# Altium integrated library CommonElectronicsLibrary.IntLib: 214 symbols (part 3 of 4)
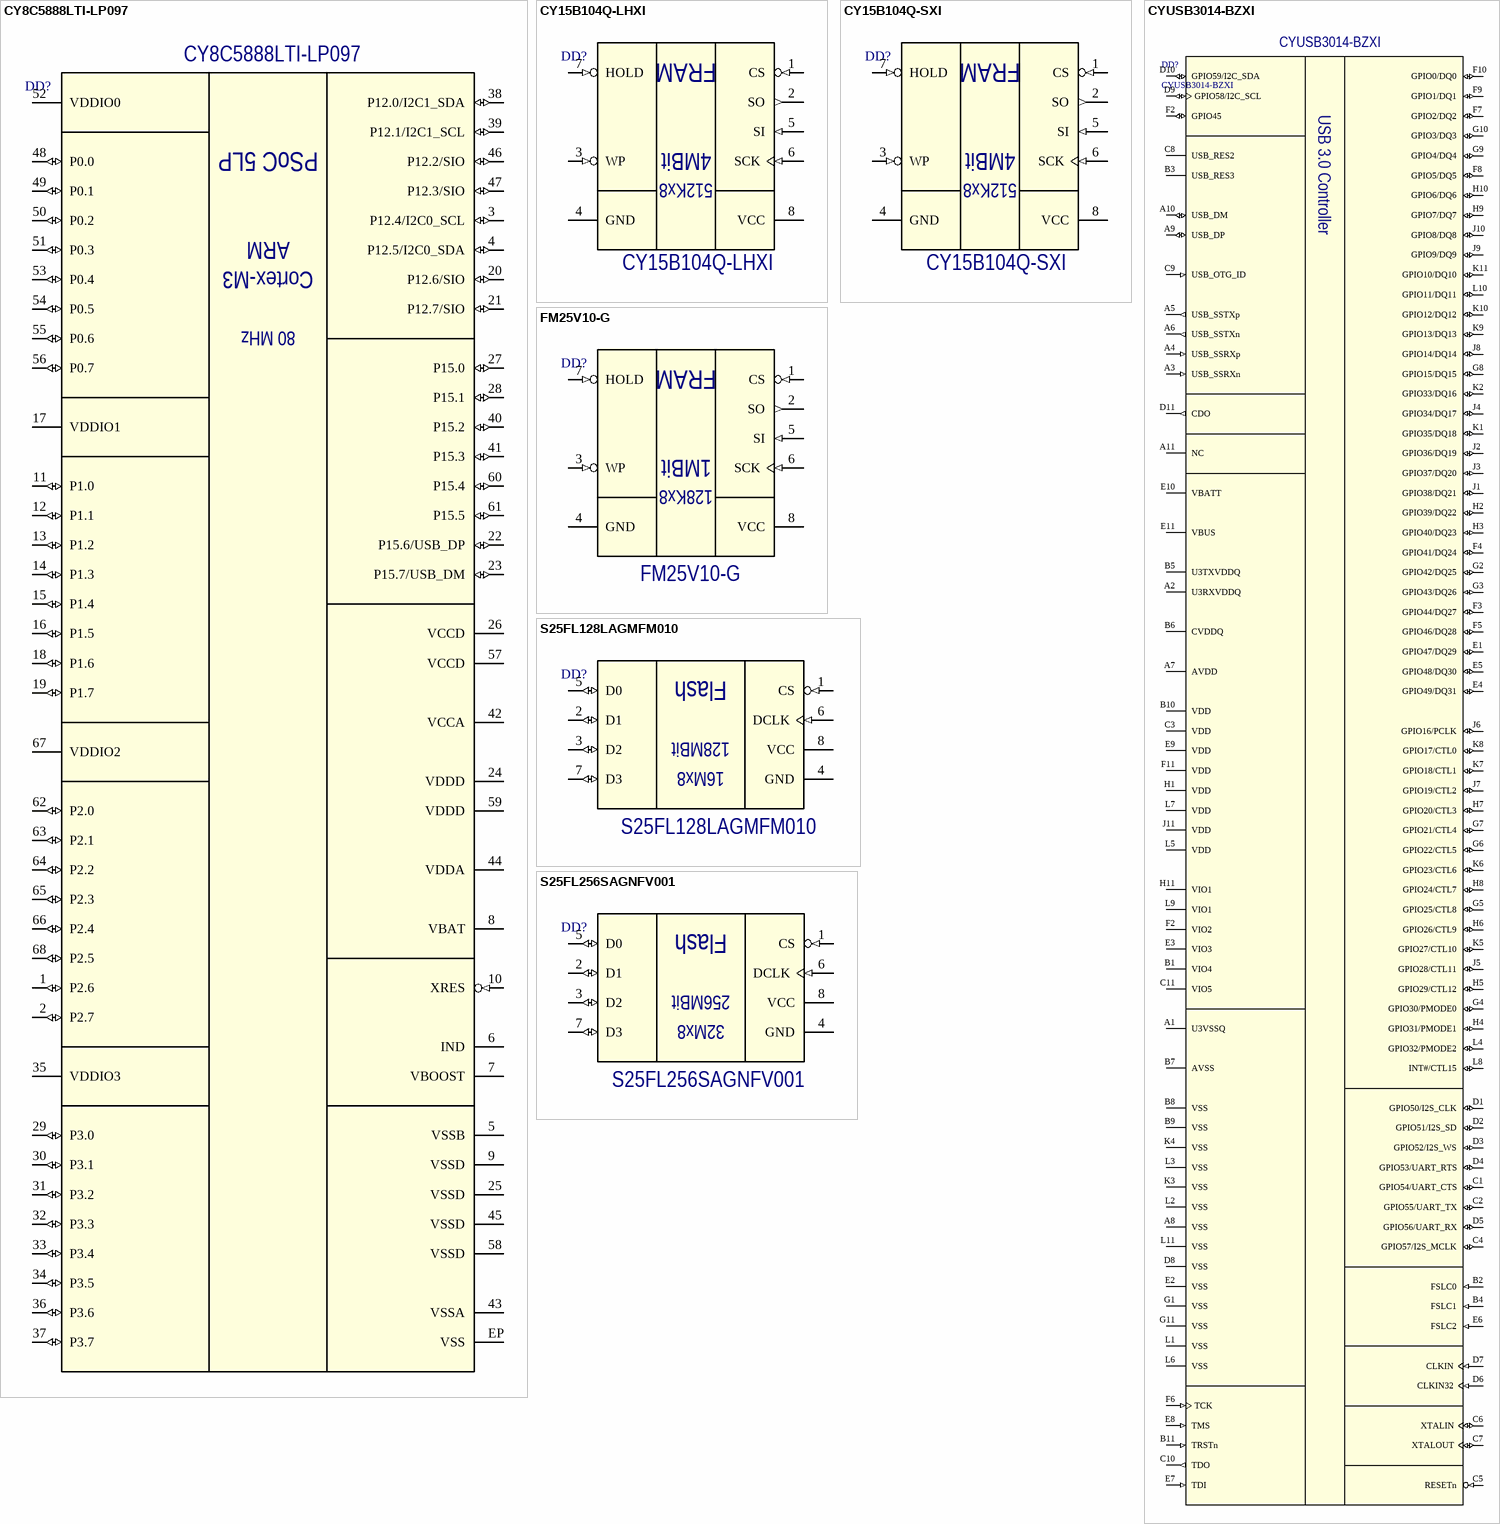
[diagram p62: symbols CY8C5888LTI-LP097 to S25FL256SAGNFV001]

## CYUSB3014-BZXI
designator DD?
EZ-USB® FX3: SuperSpeed USB Controller; Package: BGA-121; Part Nubmer: CYUSB3014-BZXI
pins: A1 U3VSSQ (power), A2 U3RXVDDQ (power), A3 USB_SSRXn (in), A4 USB_SSRXp (in), A5 USB_SSTXp (out), A6 USB_SSTXn (out), A7 AVDD (power), A8 VSS (power), A9 USB_DP (io), A10 USB_DM (io), A11 NC, B1 VIO4 (power), B2 FSLC0 (in), B3 USB_RES3, B4 FSLC1 (in), B5 U3TXVDDQ (power), B6 CVDDQ (power), B7 AVSS (power), B8 VSS (power), B9 VSS (power), B10 VDD (power), B11 TRSTn (in), C1 GPIO54/UART_CTS (io), C2 GPIO55/UART_TX (io), C3 VDD (power), C4 GPIO57/I2S_MCLK (io), C5 RESETn (in), C6 XTALIN (io), C7 XTALOUT (io), C8 USB_RES2, C9 USB_OTG_ID (in), C10 TDO (out), C11 VIO5 (power), D1 GPIO50/I2S_CLK (io), D2 GPIO51/I2S_SD (io), D3 GPIO52/I2S_WS (io), D4 GPIO53/UART_RTS (io), D5 GPIO56/UART_RX (io), D6 CLKIN32 (in), D7 CLKIN (in), D8 VSS (power), D9 GPIO58/I2C_SCL (io), D10 GPIO59/I2C_SDA (io), D11 CDO (out), E1 GPIO47/DQ29 (io), E2 VSS (power), E3 VIO3 (power), E4 GPIO49/DQ31 (io), E5 GPIO48/DQ30 (io), E6 FSLC2 (in), E7 TDI (in), E8 TMS (in), E9 VDD (power), E10 VBATT (power), E11 VBUS (power), F2 GPIO45 (io), F2 VIO2 (power), F3 GPIO44/DQ27 (io), F4 GPIO41/DQ24 (io), F5 GPIO46/DQ28 (io), F6 TCK (in), F7 GPIO2/DQ2 (io), F8 GPIO5/DQ5 (io), F9 GPIO1/DQ1 (io), F10 GPIO0/DQ0 (io), F11 VDD (power), G1 VSS (power), G2 GPIO42/DQ25 (io), G3 GPIO43/DQ26 (io), G4 GPIO30/PMODE0 (io), G5 GPIO25/CTL8 (io), G6 GPIO22/CTL5 (io), G7 GPIO21/CTL4 (io), G8 GPIO15/DQ15 (io), G9 GPIO4/DQ4 (io), G10 GPIO3/DQ3 (io), G11 VSS (power), H1 VDD (power), H2 GPIO39/DQ22 (io), H3 GPIO40/DQ23 (io), H4 GPIO31/PMODE1 (io), H5 GPIO29/CTL12 (io), H6 GPIO26/CTL9 (io), H7 GPIO20/CTL3 (io), H8 GPIO24/CTL7 (io), H9 GPIO7/DQ7 (io), H10 GPIO6/DQ6 (io), H11 VIO1 (power), J1 GPIO38/DQ21 (io), J2 GPIO36/DQ19 (io), J3 GPIO37/DQ20 (io), J4 GPIO34/DQ17 (io), J5 GPIO28/CTL11 (io), J6 GPIO16/PCLK (io), J7 GPIO19/CTL2 (io), J8 GPIO14/DQ14 (io), J9 GPIO9/DQ9 (io), J10 GPIO8/DQ8 (io), J11 VDD (power), K1 GPIO35/DQ18 (io), K2 GPIO33/DQ16 (io), K3 VSS (power), K4 VSS (power), K5 GPIO27/CTL10 (io), K6 GPIO23/CTL6 (io), K7 GPIO18/CTL1 (io), K8 GPIO17/CTL0 (io), K9 GPIO13/DQ13 (io), K10 GPIO12/DQ12 (io), K11 GPIO10/DQ10 (io), L1 VSS (power), L2 VSS (power), L3 VSS (power), L4 GPIO32/PMODE2 (io), L5 VDD (power), L6 VSS (power), L7 VDD (power), L8 INT#/CTL15 (io), L9 VIO1 (power), L10 GPIO11/DQ11 (io), L11 VSS (power)
text: USB 3.0 Controller

## FM25V10-G
designator DD?
FRAM Memory 1MBit (128K x 8); Package: SOIC8; Part Number: FM25V10-G
pins: 1 CS (in), 2 SO (out), 3 WP (in), 4 GND (power), 5 SI (in), 6 SCK (in), 7 HOLD (in), 8 VCC (power)
text: FRAM; 1MBit; 128Kx8

## S25FL128LAGMFM010
designator DD?
Flash Memory 128MBit (16M x 8); Package: SOIC8; Part Number: S25FL128LAGMFM010
pins: 1 CS (in), 2 D1 (io), 3 D2 (io), 4 GND (power), 5 D0 (io), 6 DCLK (in), 7 D3 (io), 8 VCC (power)
text: Flash; 128MBit; 16Mx8

## S25FL256SAGNFV001
designator DD?
Flash Memory 256MBit (32M x 8); Package: WSON-8; Dimension package: 6 x 8 x 0.75 mm; Part Number: S25FL256SAGNFV001
pins: 1 CS (in), 2 D1 (io), 3 D2 (io), 4 GND (power), 5 D0 (io), 6 DCLK (in), 7 D3 (io), 8 VCC (power)
text: Flash; 256MBit; 32Mx8


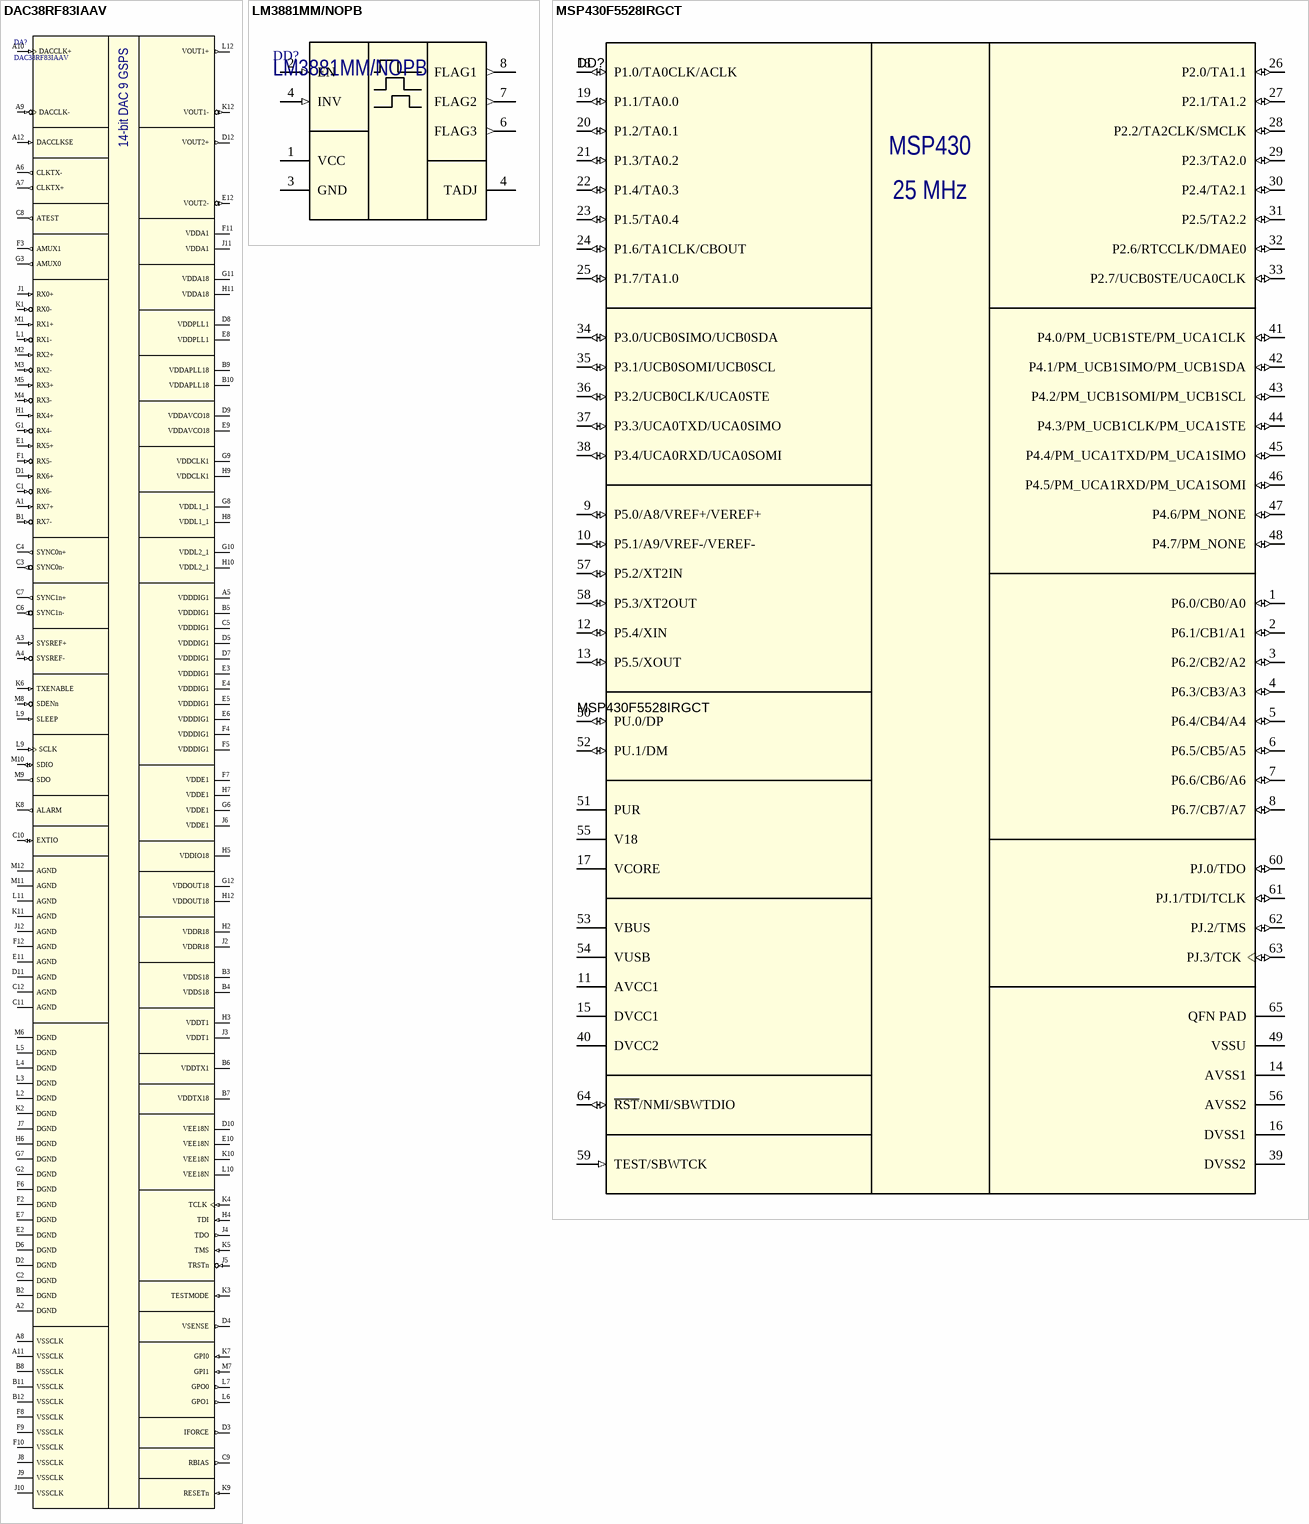
[diagram p30: symbols DAC38RF83IAAV to MSP430F5528IRGCT]

## DAC38RF83IAAV
designator DA?
Dual-Channel 9 GSPS 14-bit DAC; PartNumber: DAC38RF83IAAV; Package: BGA-144
pins: A1 RX7+ (in), A2 DGND (power), A3 SYSREF+ (in), A4 SYSREF- (in), A5 VDDDIG1 (power), A6 CLKTX- (out), A7 CLKTX+ (out), A8 VSSCLK (power), A9 DACCLK- (in), A10 DACCLK+ (in), A11 VSSCLK (power), A12 DACCLKSE (in), B1 RX7- (in), B2 DGND (power), B3 VDDS18 (power), B4 VDDS18 (power), B5 VDDDIG1 (power), B6 VDDTX1 (power), B7 VDDTX18 (power), B8 VSSCLK (power), B9 VDDAPLL18 (power), B10 VDDAPLL18 (power), B11 VSSCLK (power), B12 VSSCLK (power), C1 RX6- (in), C2 DGND (power), C3 SYNC0n- (out), C4 SYNC0n+ (out), C5 VDDDIG1 (power), C6 SYNC1n- (out), C7 SYNC1n+ (out), C8 ATEST (out), C9 RBIAS (out), C10 EXTIO (io), C11 AGND (power), C12 AGND (power), D1 RX6+ (in), D2 DGND (power), D3 IFORCE (out), D4 VSENSE (out), D5 VDDDIG1 (power), D6 DGND (power), D7 VDDDIG1 (power), D8 VDDPLL1 (power), D9 VDDAVCO18 (power), D10 VEE18N (power), D11 AGND (power), D12 VOUT2+ (out), E1 RX5+ (in), E2 DGND (power), E3 VDDDIG1 (power), E4 VDDDIG1 (power), E5 VDDDIG1 (power), E6 VDDDIG1 (power), E7 DGND (power), E8 VDDPLL1 (power), E9 VDDAVCO18 (power), E10 VEE18N (power), E11 AGND (power), E12 VOUT2- (out), F1 RX5- (in), F2 DGND (power), F3 AMUX1 (out), F4 VDDDIG1 (power), F5 VDDDIG1 (power), F6 DGND (power), F7 VDDE1 (power), F8 VSSCLK (power), F9 VSSCLK (power), F10 VSSCLK (power), F11 VDDA1 (power), F12 AGND (power), G1 RX4- (in), G2 DGND (power), G3 AMUX0 (out), G6 VDDE1 (power), G7 DGND (power), G8 VDDL1_1 (power), G9 VDDCLK1 (power), G10 VDDL2_1 (power), G11 VDDA18 (power), G12 VDDOUT18 (power), H1 RX4+ (in), H2 VDDR18 (power), H3 VDDT1 (power), H4 TDI (in), H5 VDDIO18 (power), H6 DGND (power), H7 VDDE1 (power), H8 VDDL1_1 (power), H9 VDDCLK1 (power), H10 VDDL2_1 (power), H11 VDDA18 (power), H12 VDDOUT18 (power), J1 RX0+ (in), J2 VDDR18 (power), J3 VDDT1 (power), J4 TDO (out), J5 TRSTn (in), J6 VDDE1 (power), J7 DGND (power), J8 VSSCLK (power), J9 VSSCLK (power), J10 VSSCLK (power), J11 VDDA1 (power), J12 AGND (power), K1 RX0- (in), K2 DGND (power), K3 TESTMODE (in), K4 TCLK (in), K5 TMS (in), K6 TXENABLE (in), K7 GPI0 (in), K8 ALARM (out), K9 RESETn (in), K10 VEE18N (power), K11 AGND (power), K12 VOUT1- (out), L1 RX1- (in), L2 DGND (power), L3 DGND (power), L4 DGND (power), L5 DGND (power), L6 GPO1 (out), L7 GPO0 (out), L9 SCLK (in), L9 SLEEP (in), L10 VEE18N (power), L11 AGND (power), L12 VOUT1+ (out), M1 RX1+ (in), M2 RX2+ (in), M3 RX2- (in), M4 RX3- (in), M5 RX3+ (in), M6 DGND (power), M7 GPI1 (in), M8 SDENn (in), M9 SDO (out), M10 SDIO (io), M11 AGND (power), M12 AGND (power)
text: 14-bit DAC 9 GSPS

## LM3881MM/NOPB
designator DD?
Power Sequencer With Adjustable Timing; Part Number: LM3881MM/NOPB; Package: MSOP-8
pins: 1 VCC (power), 2 EN (in), 3 GND (power), 4 INV (in), 4 TADJ, 6 FLAG3 (out), 7 FLAG2 (out), 8 FLAG1 (out)

## MSP430F5528IRGCT
designator DD?
25 MHz Mixed Signal Microcontroller with 128 KB Flash, 8192 B SRAM and 47 GPIOs, -40 to 85 degC, 64-pin QFN (RGC); Alternate Manufacturer: Texas Instruments; Alternate PartNumber: Equivalent; ADC: 12-bit SAR; ADC Channels: 16; Brown Out Reset: Yes; DMA: 3; Eco-Plan: Green (RoHS & no Sb/Br); Flash(KB): 128; Frequency(MHz): 25; GPIO: 47; Multiplier: 32x32; Pin/Package: 64DSBGA, 64VQFN, 80BGA MICROSTAR JUNIOR; SRAM(B): 8192; SubFamily: 5 Series; Timers - 16-bit: 4; USB: 1; USCI_A (UART/LIN/IrDA/SPI): 2; Note: TI Provided; DatasheetVersion: SLAS590I; PackageVersion: 4204106/F, 11/2011; PackageReference: RGC0064B; PackageDescription: 64-Pin Plastic Flat Pack, Body 9 x 9 mm, Pitch 0.5 mm; Comparators: Yes; Real-Time Clock: Yes; SVS: Yes; Temp Sensor: Yes; USCI_B (I2C & SPI): 2; Watchdog: Yes; MountType: SMT; ComponentLink1Description: Manufacturer URL; ComponentLink1URL: http://www.ti.com/; ComponentLink2Description: Datasheet; ComponentLink2URL: http://www.ti.com/general/docs/lit/getliterature.tsp?genericPartNumber=MSP430F5528&fileType=pdf; PartNumber: MSP430F5528IRGCT; Manufacturer: Texas Instruments
footprint RGC0064B (QFN, 64-Leads, Body 9x9mm, Pitch 0.5mm, Thermal Pad 4.25x4.25mm)
pins: 1 P6.0/CB0/A0 (io), 2 P6.1/CB1/A1 (io), 3 P6.2/CB2/A2 (io), 4 P6.3/CB3/A3 (io), 5 P6.4/CB4/A4 (io), 6 P6.5/CB5/A5 (io), 7 P6.6/CB6/A6 (io), 8 P6.7/CB7/A7 (io), 9 P5.0/A8/VREF+/VEREF+ (io), 10 P5.1/A9/VREF-/VEREF- (io), 11 AVCC1 (power) "Analog power supply", 12 P5.4/XIN (io), 13 P5.5/XOUT (io), 14 AVSS1 (power) "Analog ground supply", 15 DVCC1 (power) "Digital power supply", 16 DVSS1 (power) "Digital ground supply", 17 VCORE "Regulated core power supply output (internal use only, no external current loading)", 18 P1.0/TA0CLK/ACLK (io), 19 P1.1/TA0.0 (io), 20 P1.2/TA0.1 (io), 21 P1.3/TA0.2 (io), 22 P1.4/TA0.3 (io), 23 P1.5/TA0.4 (io), 24 P1.6/TA1CLK/CBOUT (io), 25 P1.7/TA1.0 (io), 26 P2.0/TA1.1 (io), 27 P2.1/TA1.2 (io), 28 P2.2/TA2CLK/SMCLK (io), 29 P2.3/TA2.0 (io), 30 P2.4/TA2.1 (io), 31 P2.5/TA2.2 (io), 32 P2.6/RTCCLK/DMAE0 (io), 33 P2.7/UCB0STE/UCA0CLK (io), 34 P3.0/UCB0SIMO/UCB0SDA (io), 35 P3.1/UCB0SOMI/UCB0SCL (io), 36 P3.2/UCB0CLK/UCA0STE (io), 37 P3.3/UCA0TXD/UCA0SIMO (io), 38 P3.4/UCA0RXD/UCA0SOMI (io), 39 DVSS2 (power) "Digital ground supply", 40 DVCC2 (power) "Digital power supply", 41 P4.0/PM_UCB1STE/PM_UCA1CLK (io), 42 P4.1/PM_UCB1SIMO/PM_UCB1SDA (io), 43 P4.2/PM_UCB1SOMI/PM_UCB1SCL (io), 44 P4.3/PM_UCB1CLK/PM_UCA1STE (io), 45 P4.4/PM_UCA1TXD/PM_UCA1SIMO (io), 46 P4.5/PM_UCA1RXD/PM_UCA1SOMI (io), 47 P4.6/PM_NONE (io), 48 P4.7/PM_NONE (io), 49 VSSU (power) "USB PHY ground supply", 50 PU.0/DP (io), 51 PUR "USB pullup resistor pin (open drain). The voltage level at the PUR pin is used to invoke the default USB BSL. Recommended 1-Mohm resistor to ground. See USB BSL for more information.", 52 PU.1/DM (io), 53 VBUS (power) "USB LDO input (connect to USB power source)", 54 VUSB (power) "USB LDO output", 55 V18 "USB regulated power (internal use only, no external current loading)", 56 AVSS2 (power) "Analog ground supply", 57 P5.2/XT2IN (io), 58 P5.3/XT2OUT (io), 59 TEST/SBWTCK (in), 60 PJ.0/TDO (io), 61 PJ.1/TDI/TCLK (io), 62 PJ.2/TMS (io), 63 PJ.3/TCK (io), 64 ~{RST}/NMI/SBWTDIO (io), 65 QFN PAD (power) "QFN package pad connection to VSS recommended."
text: MSP430; 25 MHz

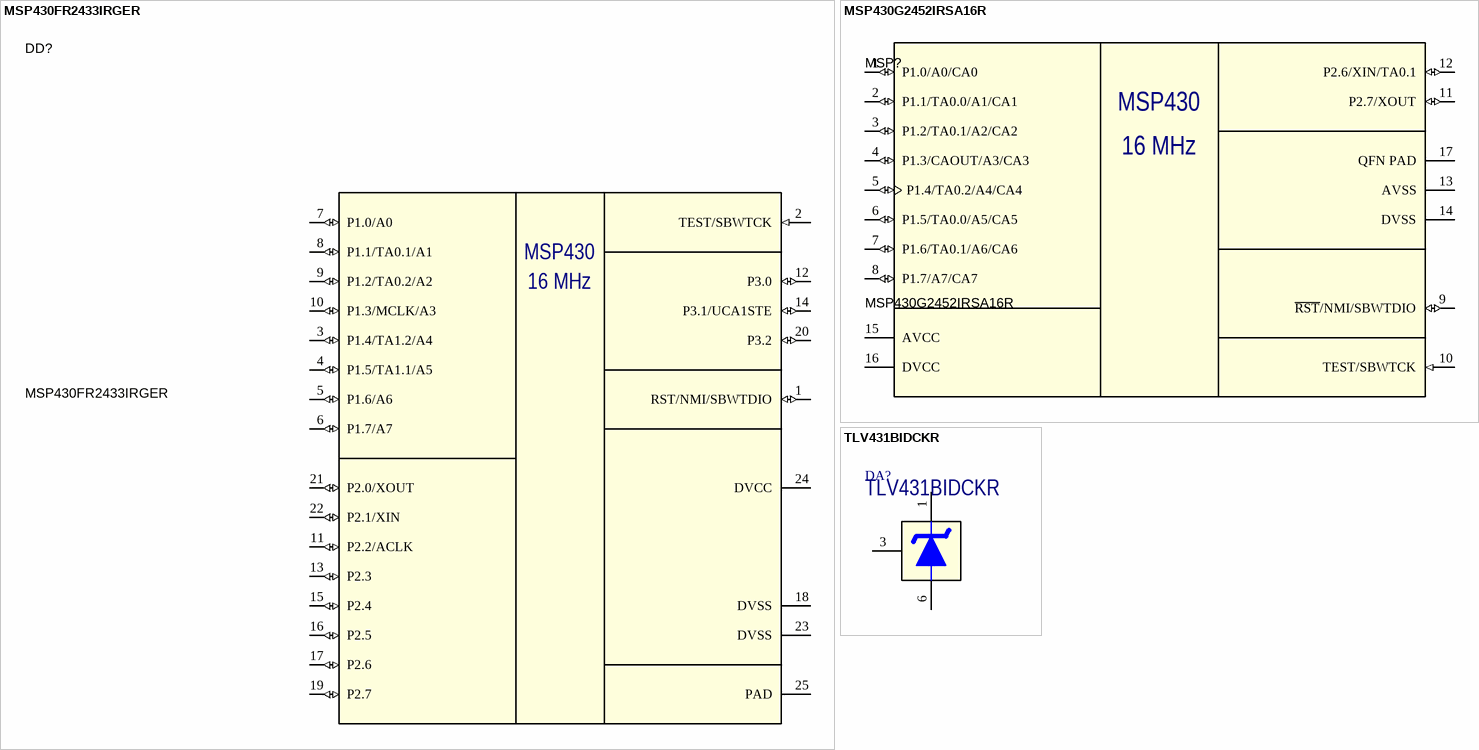
[diagram p31: symbols MSP430FR2433IRGER to TLV431BIDCKR]

## MSP430FR2433IRGER
designator DD?
MSP430FR2433 16 MHz Ultra-Low-Power Microcontroller with 16 KB FRAM, 4 KB RAM, 19 IO, 4 Timers, RGE0024H (VQFN-24); Alternate PartNumber: MSP430FR2433IRGET; Manufacturer: Texas Instruments; SymbolCreator: Altium; SizeArea_mm2: 16; SizeAreaWB_mm2: 25; SizeX_mm: 4; SizeZ_mm: 1; CompType: IC; U/M: EA; Note: TI Provided; SymbolVersion: 2015-09-16; PartNumber: MSP430FR2433IRGER; PackageReference: RGE0024H; PackageDescription: VQFN-24; MountType: SMT; SizeY_mm: 4; ComponentLink1Description: Datasheet Link; ComponentLink1URL: http://www.ti.com/lit/ds/symlink/msp430fr2433.pdf; Publisher: Texas Instruments; LatestRevisionDate: 2017-03-06; Alternate Manufacturer: Texas Instruments
footprint RGE0024H
footprint RGE0024H_NV
pins: 1 RST/NMI/SBWTDIO (io), 2 TEST/SBWTCK (in), 3 P1.4/TA1.2/A4 (io), 4 P1.5/TA1.1/A5 (io), 5 P1.6/A6 (io), 6 P1.7/A7 (io), 7 P1.0/A0 (io), 8 P1.1/TA0.1/A1 (io), 9 P1.2/TA0.2/A2 (io), 10 P1.3/MCLK/A3 (io), 11 P2.2/ACLK (io), 12 P3.0 (io), 13 P2.3 (io), 14 P3.1/UCA1STE (io), 15 P2.4 (io), 16 P2.5 (io), 17 P2.6 (io), 18 DVSS (power), 19 P2.7 (io), 20 P3.2 (io), 21 P2.0/XOUT (io), 22 P2.1/XIN (io), 23 DVSS (power), 24 DVCC (power), 25 PAD (power)
text: MSP430; 16 MHz

## MSP430G2452IRSA16R
designator MSP?
16 MHz Mixed Signal Microcontroller with 8 KB Flash, 256 B SRAM and 16 GPIOs, 16-pin QFN (RSA), Green (RoHS & no Sb/Br); Alternate Manufacturer: Texas Instruments; Alternate PartNumber: Equivalent; ADC: 10-bit SAR; ADC Channels: 8; Brown Out Reset: Yes; Frequency(MHz): 16; Pin/Package: 14TSSOP, 16QFN, 20PDIP, 20TSSOP; SRAM(B): 256; SubFamily: Value Line; Timers - 16-bit: 1; USI: (I2C/SPI); Note: TI Provided; DatasheetVersion: SLAS722E; PackageVersion: 4205141/D, 06/2011; PackageReference: RSA0016B; PackageDescription: 16-Pin Plastic Flat Pack, Body 4.00 x 4.00 mm, Pitch 0.65 mm; Cap touch I/O: Yes; Comparators: Yes; Eco-Plan: Green (RoHS & no Sb/Br); Flash(KB): 8; GPIO: 16; Temp Sensor: Yes; Watchdog: Yes; MountType: SMT; Code_JEDEC: MO-220; ComponentLink1Description: Manufacturer URL; ComponentLink1URL: http://www.ti.com/; ComponentLink2Description: Datasheet; ComponentLink2URL: http://www.ti.com/general/docs/lit/getliterature.tsp?genericPartNumber=MSP430G2452&fileType=pdf; PartNumber: MSP430G2452IRSA16R; Manufacturer: Texas Instruments
footprint RSA0016B (QFN, 16-Leads, Body 4x4mm, Pitch 0.65mm, Thermal Pad 2.7x2.7mm)
pins: 1 P1.0/A0/CA0 (io), 2 P1.1/TA0.0/A1/CA1 (io), 3 P1.2/TA0.1/A2/CA2 (io), 4 P1.3/CAOUT/A3/CA3 (io), 5 P1.4/TA0.2/A4/CA4 (io), 6 P1.5/TA0.0/A5/CA5 (io), 7 P1.6/TA0.1/A6/CA6 (io), 8 P1.7/A7/CA7 (io), 9 ~{RST}/NMI/SBWTDIO (io), 10 TEST/SBWTCK (in), 11 P2.7/XOUT (io), 12 P2.6/XIN/TA0.1 (io), 13 AVSS (power) "Ground reference", 14 DVSS (power) "Ground reference", 15 AVCC (power) "Supply voltage", 16 DVCC (power) "Supply voltage", 17 QFN PAD (power) "QFN package pad connection to VSS recommended"
text: MSP430; 16 MHz

## TLV431BIDCKR
designator DA?
Low-Voltage Adjustable Precision Shunt Regulator; Part Number: TLV431BIDCKR; Package: SC70-6
pins: 1 CATHODE (power), 3 REF (power), 6 ANODE (power)

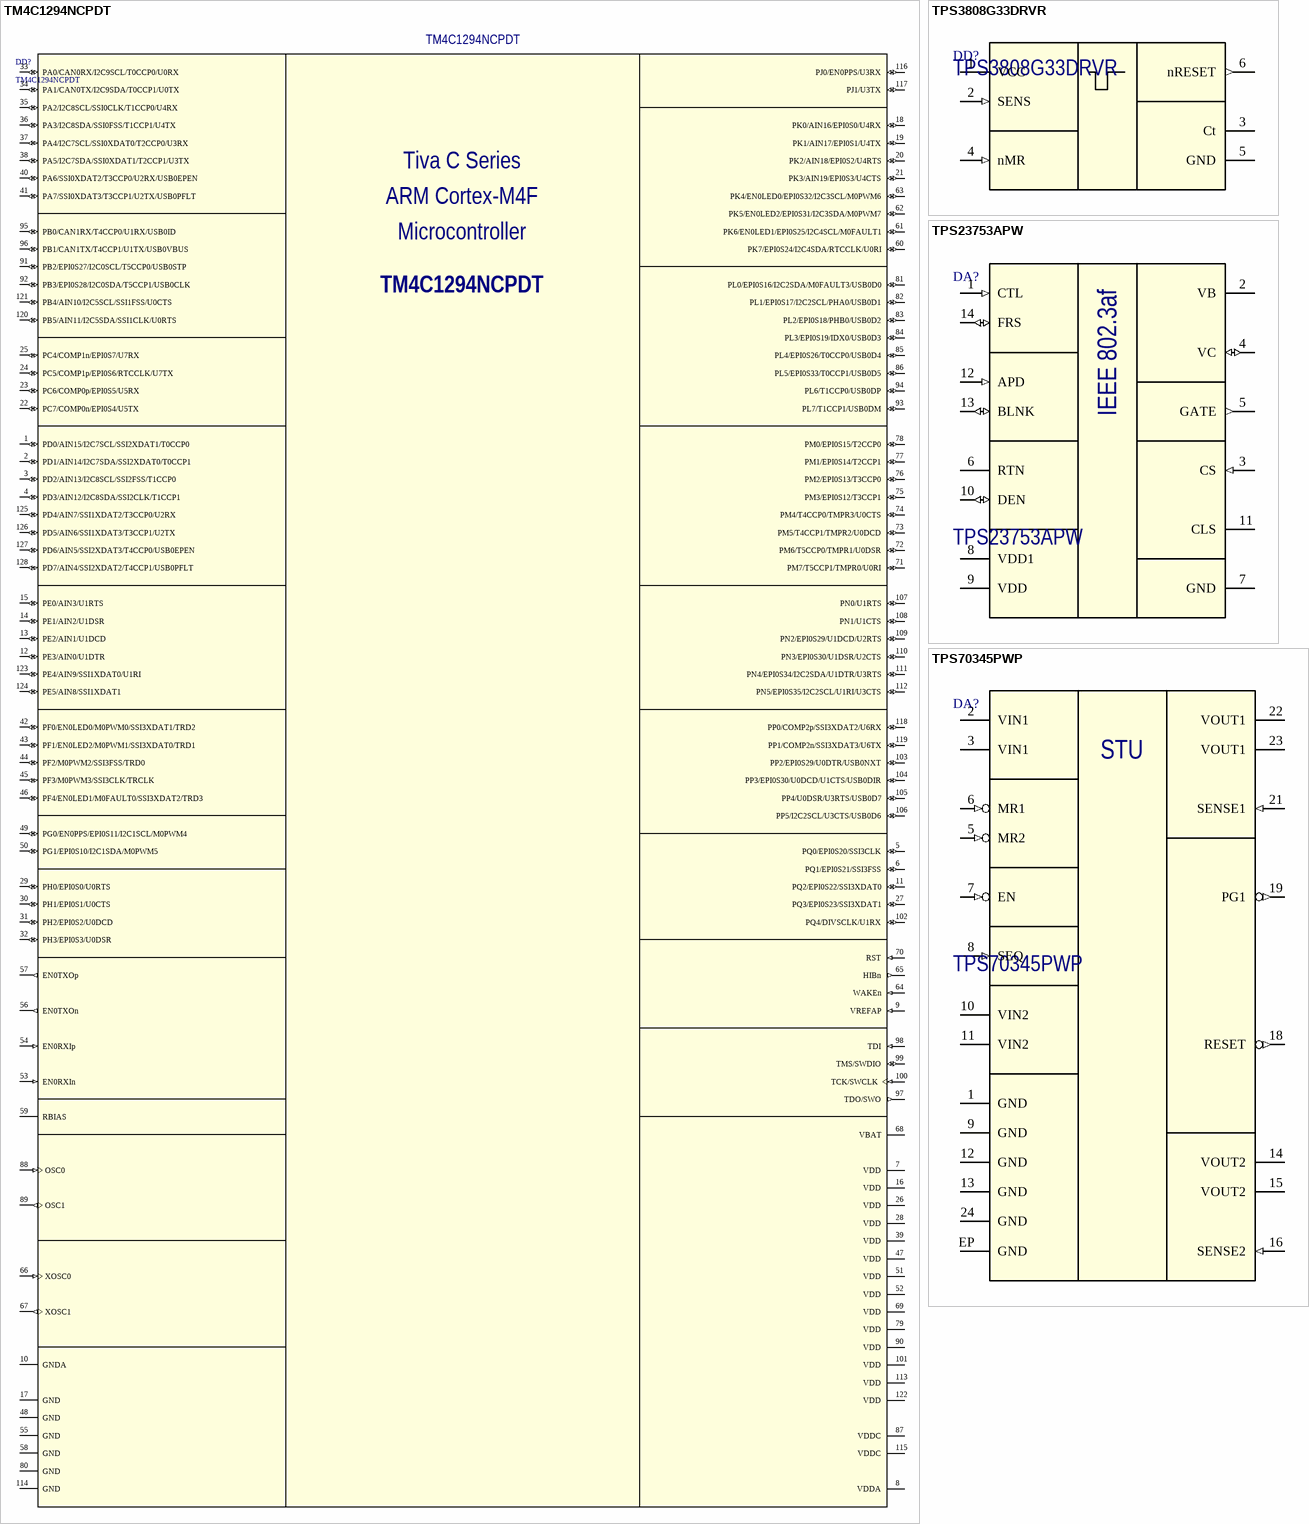
[diagram p32: symbols TM4C1294NCPDT to TPS70345PWP]

## TM4C1294NCPDT
designator DD?
ARM Cortex-M4F MCU 120MHz clock rate with 1MB Flash; Package: TQFP128; Part Number: TM4C1294NCPDT
pins: 1 PD0/AIN15/I2C7SCL/SSI2XDAT1/T0CCP0 (io), 2 PD1/AIN14/I2C7SDA/SSI2XDAT0/T0CCP1 (io), 3 PD2/AIN13/I2C8SCL/SSI2FSS/T1CCP0 (io), 4 PD3/AIN12/I2C8SDA/SSI2CLK/T1CCP1 (io), 5 PQ0/EPI0S20/SSI3CLK (io), 6 PQ1/EPI0S21/SSI3FSS (io), 7 VDD (power), 8 VDDA (power), 9 VREFAP (in), 10 GNDA (power), 11 PQ2/EPI0S22/SSI3XDAT0 (io), 12 PE3/AIN0/U1DTR (io), 13 PE2/AIN1/U1DCD (io), 14 PE1/AIN2/U1DSR (io), 15 PE0/AIN3/U1RTS (io), 16 VDD (power), 17 GND (power), 18 PK0/AIN16/EPI0S0/U4RX (io), 19 PK1/AIN17/EPI0S1/U4TX (io), 20 PK2/AIN18/EPI0S2/U4RTS (io), 21 PK3/AIN19/EPI0S3/U4CTS (io), 22 PC7/COMP0n/EPI0S4/U5TX (io), 23 PC6/COMP0p/EPI0S5/U5RX (io), 24 PC5/COMP1p/EPI0S6/RTCCLK/U7TX (io), 25 PC4/COMP1n/EPI0S7/U7RX (io), 26 VDD (power), 27 PQ3/EPI0S23/SSI3XDAT1 (io), 28 VDD (power), 29 PH0/EPI0S0/U0RTS (io), 30 PH1/EPI0S1/U0CTS (io), 31 PH2/EPI0S2/U0DCD (io), 32 PH3/EPI0S3/U0DSR (io), 33 PA0/CAN0RX/I2C9SCL/T0CCP0/U0RX (io), 34 PA1/CAN0TX/I2C9SDA/T0CCP1/U0TX (io), 35 PA2/I2C8SCL/SSI0CLK/T1CCP0/U4RX (io), 36 PA3/I2C8SDA/SSI0FSS/T1CCP1/U4TX (io), 37 PA4/I2C7SCL/SSI0XDAT0/T2CCP0/U3RX (io), 38 PA5/I2C7SDA/SSI0XDAT1/T2CCP1/U3TX (io), 39 VDD (power), 40 PA6/SSI0XDAT2/T3CCP0/U2RX/USB0EPEN (io), 41 PA7/SSI0XDAT3/T3CCP1/U2TX/USB0PFLT (io), 42 PF0/EN0LED0/M0PWM0/SSI3XDAT1/TRD2 (io), 43 PF1/EN0LED2/M0PWM1/SSI3XDAT0/TRD1 (io), 44 PF2/M0PWM2/SSI3FSS/TRD0 (io), 45 PF3/M0PWM3/SSI3CLK/TRCLK (io), 46 PF4/EN0LED1/M0FAULT0/SSI3XDAT2/TRD3 (io), 47 VDD (power), 48 GND (power), 49 PG0/EN0PPS/EPI0S11/I2C1SCL/M0PWM4 (io), 50 PG1/EPI0S10/I2C1SDA/M0PWM5 (io), 51 VDD (power), 52 VDD (power), 53 EN0RXIn (in), 54 EN0RXIp (in), 55 GND (power), 56 EN0TXOn (out), 57 EN0TXOp (out), 58 GND (power), 59 RBIAS, 60 PK7/EPI0S24/I2C4SDA/RTCCLK/U0RI (io), 61 PK6/EN0LED1/EPI0S25/I2C4SCL/M0FAULT1 (io), 62 PK5/EN0LED2/EPI0S31/I2C3SDA/M0PWM7 (io), 63 PK4/EN0LED0/EPI0S32/I2C3SCL/M0PWM6 (io), 64 WAKEn (in), 65 HIBn (out), 66 XOSC0 (in), 67 XOSC1 (out), 68 VBAT (power), 69 VDD (power), 70 RST (in), 71 PM7/T5CCP1/TMPR0/U0RI (io), 72 PM6/T5CCP0/TMPR1/U0DSR (io), 73 PM5/T4CCP1/TMPR2/U0DCD (io), 74 PM4/T4CCP0/TMPR3/U0CTS (io), 75 PM3/EPI0S12/T3CCP1 (io), 76 PM2/EPI0S13/T3CCP0 (io), 77 PM1/EPI0S14/T2CCP1 (io), 78 PM0/EPI0S15/T2CCP0 (io), 79 VDD (power), 80 GND (power), 81 PL0/EPI0S16/I2C2SDA/M0FAULT3/USB0D0 (io), 82 PL1/EPI0S17/I2C2SCL/PHA0/USB0D1 (io), 83 PL2/EPI0S18/PHB0/USB0D2 (io), 84 PL3/EPI0S19/IDX0/USB0D3 (io), 85 PL4/EPI0S26/T0CCP0/USB0D4 (io), 86 PL5/EPI0S33/T0CCP1/USB0D5 (io), 87 VDDC (power), 88 OSC0 (in), 89 OSC1 (out), 90 VDD (power), 91 PB2/EPI0S27/I2C0SCL/T5CCP0/USB0STP (io), 92 PB3/EPI0S28/I2C0SDA/T5CCP1/USB0CLK (io), 93 PL7/T1CCP1/USB0DM (io), 94 PL6/T1CCP0/USB0DP (io), 95 PB0/CAN1RX/T4CCP0/U1RX/USB0ID (io), 96 PB1/CAN1TX/T4CCP1/U1TX/USB0VBUS (io), 97 TDO/SWO (out), 98 TDI (in), 99 TMS/SWDIO (io), 100 TCK/SWCLK (in), 101 VDD (power), 102 PQ4/DIVSCLK/U1RX (io), 103 PP2/EPI0S29/U0DTR/USB0NXT (io), 104 PP3/EPI0S30/U0DCD/U1CTS/USB0DIR (io), 105 PP4/U0DSR/U3RTS/USB0D7 (io), 106 PP5/I2C2SCL/U3CTS/USB0D6 (io), 107 PN0/U1RTS (io), 108 PN1/U1CTS (io), 109 PN2/EPI0S29/U1DCD/U2RTS (io), 110 PN3/EPI0S30/U1DSR/U2CTS (io), 111 PN4/EPI0S34/I2C2SDA/U1DTR/U3RTS (io), 112 PN5/EPI0S35/I2C2SCL/U1RI/U3CTS (io), 113 VDD (power), 114 GND (power), 115 VDDC (power), 116 PJ0/EN0PPS/U3RX (io), 117 PJ1/U3TX (io), 118 PP0/COMP2p/SSI3XDAT2/U6RX (io), 119 PP1/COMP2n/SSI3XDAT3/U6TX (io), 120 PB5/AIN11/I2C5SDA/SSI1CLK/U0RTS (io), 121 PB4/AIN10/I2C5SCL/SSI1FSS/U0CTS (io), 122 VDD (power), 123 PE4/AIN9/SSI1XDAT0/U1RI (io), 124 PE5/AIN8/SSI1XDAT1 (io), 125 PD4/AIN7/SSI1XDAT2/T3CCP0/U2RX (io), 126 PD5/AIN6/SSI1XDAT3/T3CCP1/U2TX (io), 127 PD6/AIN5/SSI2XDAT3/T4CCP0/USB0EPEN (io), 128 PD7/AIN4/SSI2XDAT2/T4CCP1/USB0PFLT (io)
text: Tiva C Series; ARM Cortex-M4F; Microcontroller

## TPS3808G33DRVR
designator DD?
Programmable-Delay Supervisory Circuit; Part Number: TPS3808G33DRVR; Package: WSON-6; Dimension: 2 x 2 x 0.8 mm
pins: 1 VCC (power), 2 SENS (in), 3 Ct, 4 nMR (in), 5 GND (power), 6 nRESET (out)

## TPS23753APW
designator DA?
IEEE 802.3 PoE Interface and Converter Controller With Enhanced ESD  Immunity; Name: *; Part Number: TPS23753APW; Package: TSSOP-14
pins: 1 CTL (in), 2 VB (power), 3 CS (in), 4 VC (io), 5 GATE (out), 6 RTN, 7 GND (power), 8 VDD1 (power), 9 VDD (power), 10 DEN (io), 11 CLS (power), 12 APD (in), 13 BLNK (io), 14 FRS (io)
text: IEEE 802.3af

## TPS70345PWP
designator DA?
LDO (V1 = 3.3V, V2 = 1.2V); Name: *; Part Number: TPS70345PWP; Package: HTSSOP-24
pins: 1 GND (power), 2 VIN1 (power), 3 VIN1 (power), 5 MR2 (in), 6 MR1 (in), 7 EN (in), 8 SEQ (in), 9 GND (power), 10 VIN2 (power), 11 VIN2 (power), 12 GND (power), 13 GND (power), 14 VOUT2 (power), 15 VOUT2 (power), 16 SENSE2 (in), 18 RESET (out), 19 PG1 (out), 21 SENSE1 (in), 22 VOUT1 (power), 23 VOUT1 (power), 24 GND (power), EP GND (power)
text: STU

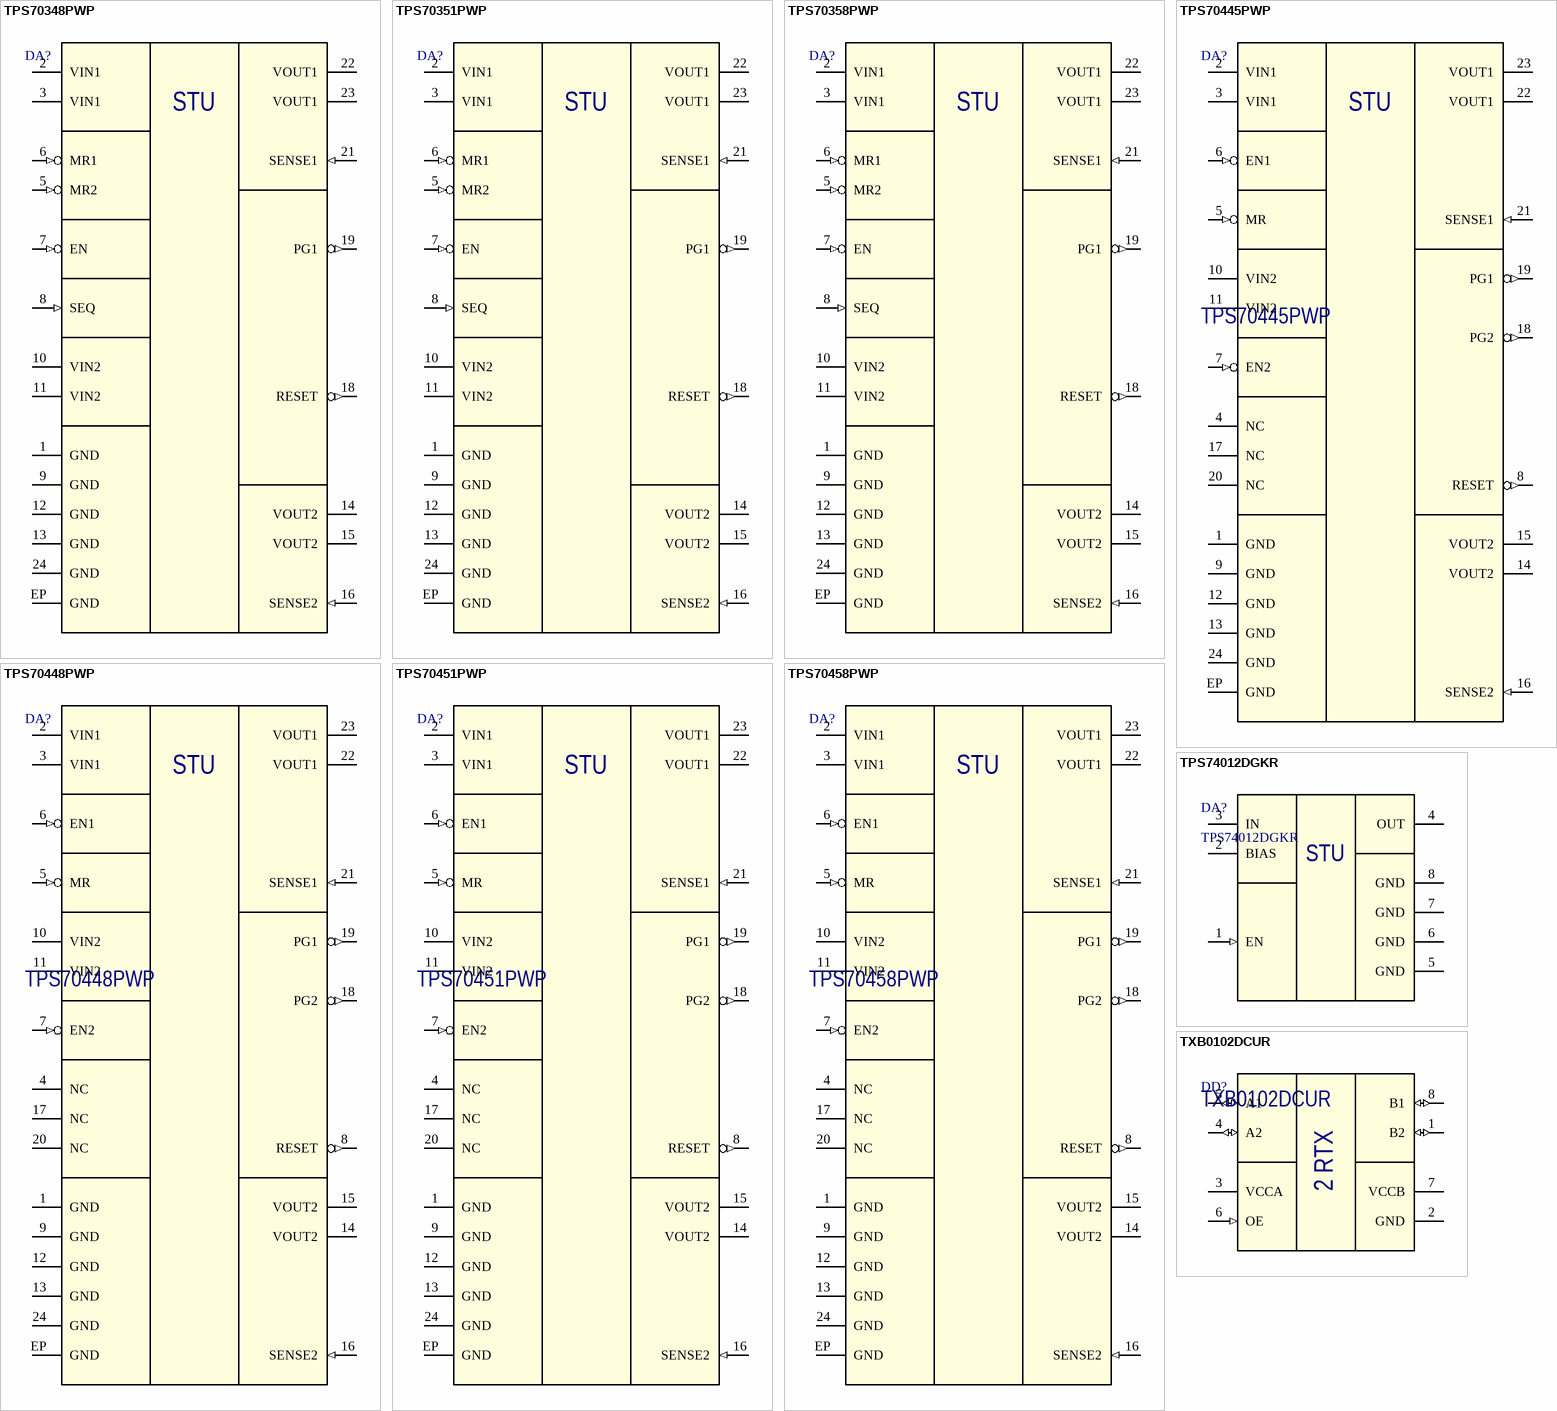
[diagram p33: symbols TPS70348PWP to TXB0102DCUR]

## TPS70348PWP
designator DA?  (value not drawn)
LDO (V1 = 3.3V, V2 = 1.5V); Name: *; Part Number: TPS70348PWP; Package: HTSSOP-24
pins: 1 GND (power), 2 VIN1 (power), 3 VIN1 (power), 5 MR2 (in), 6 MR1 (in), 7 EN (in), 8 SEQ (in), 9 GND (power), 10 VIN2 (power), 11 VIN2 (power), 12 GND (power), 13 GND (power), 14 VOUT2 (power), 15 VOUT2 (power), 16 SENSE2 (in), 18 RESET (out), 19 PG1 (out), 21 SENSE1 (in), 22 VOUT1 (power), 23 VOUT1 (power), 24 GND (power), EP GND (power)
text: STU

## TPS70351PWP
designator DA?  (value not drawn)
LDO (V1 = 3.3V, V2 = 1.8V); Name: *; Part Number: TPS70351PWP; Package: HTSSOP-24
pins: 1 GND (power), 2 VIN1 (power), 3 VIN1 (power), 5 MR2 (in), 6 MR1 (in), 7 EN (in), 8 SEQ (in), 9 GND (power), 10 VIN2 (power), 11 VIN2 (power), 12 GND (power), 13 GND (power), 14 VOUT2 (power), 15 VOUT2 (power), 16 SENSE2 (in), 18 RESET (out), 19 PG1 (out), 21 SENSE1 (in), 22 VOUT1 (power), 23 VOUT1 (power), 24 GND (power), EP GND (power)
text: STU

## TPS70358PWP
designator DA?  (value not drawn)
LDO (V1 = 3.3V, V2 = 2.5V); Name: *; Part Number: TPS70358PWP; Package: HTSSOP-24
pins: 1 GND (power), 2 VIN1 (power), 3 VIN1 (power), 5 MR2 (in), 6 MR1 (in), 7 EN (in), 8 SEQ (in), 9 GND (power), 10 VIN2 (power), 11 VIN2 (power), 12 GND (power), 13 GND (power), 14 VOUT2 (power), 15 VOUT2 (power), 16 SENSE2 (in), 18 RESET (out), 19 PG1 (out), 21 SENSE1 (in), 22 VOUT1 (power), 23 VOUT1 (power), 24 GND (power), EP GND (power)
text: STU

## TPS70445PWP
designator DA?
LDO (V1 = 3.3V, V2 = 1.2V) with two enable; Name: *; Part Number: TPS70445PWP; Package: HTSSOP-24
pins: 1 GND (power), 2 VIN1 (power), 3 VIN1 (power), 4 NC (hiz), 5 MR (in), 6 EN1 (in), 7 EN2 (in), 8 RESET (out), 9 GND (power), 10 VIN2 (power), 11 VIN2 (power), 12 GND (power), 13 GND (power), 14 VOUT2 (power), 15 VOUT2 (power), 16 SENSE2 (in), 17 NC (hiz), 18 PG2 (out), 19 PG1 (out), 20 NC (hiz), 21 SENSE1 (in), 22 VOUT1 (power), 23 VOUT1 (power), 24 GND (power), EP GND (power)
text: STU

## TPS70448PWP
designator DA?
LDO (V1 = 3.3V, V2 = 1.5V) with two enable; Name: *; Part Number: TPS70448PWP; Package: HTSSOP-24
pins: 1 GND (power), 2 VIN1 (power), 3 VIN1 (power), 4 NC (hiz), 5 MR (in), 6 EN1 (in), 7 EN2 (in), 8 RESET (out), 9 GND (power), 10 VIN2 (power), 11 VIN2 (power), 12 GND (power), 13 GND (power), 14 VOUT2 (power), 15 VOUT2 (power), 16 SENSE2 (in), 17 NC (hiz), 18 PG2 (out), 19 PG1 (out), 20 NC (hiz), 21 SENSE1 (in), 22 VOUT1 (power), 23 VOUT1 (power), 24 GND (power), EP GND (power)
text: STU

## TPS70451PWP
designator DA?
LDO (V1 = 3.3V, V2 = 1.8V) with two enable; Name: *; Part Number: TPS70451PWP; Package: HTSSOP-24
pins: 1 GND (power), 2 VIN1 (power), 3 VIN1 (power), 4 NC (hiz), 5 MR (in), 6 EN1 (in), 7 EN2 (in), 8 RESET (out), 9 GND (power), 10 VIN2 (power), 11 VIN2 (power), 12 GND (power), 13 GND (power), 14 VOUT2 (power), 15 VOUT2 (power), 16 SENSE2 (in), 17 NC (hiz), 18 PG2 (out), 19 PG1 (out), 20 NC (hiz), 21 SENSE1 (in), 22 VOUT1 (power), 23 VOUT1 (power), 24 GND (power), EP GND (power)
text: STU

## TPS70458PWP
designator DA?
LDO (V1 = 3.3V, V2 = 2.5V) with two enable; Name: *; Part Number: TPS70458PWP; Package: HTSSOP-24
pins: 1 GND (power), 2 VIN1 (power), 3 VIN1 (power), 4 NC (hiz), 5 MR (in), 6 EN1 (in), 7 EN2 (in), 8 RESET (out), 9 GND (power), 10 VIN2 (power), 11 VIN2 (power), 12 GND (power), 13 GND (power), 14 VOUT2 (power), 15 VOUT2 (power), 16 SENSE2 (in), 17 NC (hiz), 18 PG2 (out), 19 PG1 (out), 20 NC (hiz), 21 SENSE1 (in), 22 VOUT1 (power), 23 VOUT1 (power), 24 GND (power), EP GND (power)
text: STU

## TPS74012DGKR
designator DA?
1.5-A, Low-Voltage LDO Regulator; Part Number: TPS74012DGKR; Package: MSOP-8
pins: 1 EN (in), 2 BIAS (power), 3 IN (power), 4 OUT (power), 5 GND (power), 6 GND (power), 7 GND (power), 8 GND (power)
text: STU

## TXB0102DCUR
designator DD?
2-Bit Bidirectional Voltage-Level Translator; Part Number: TXB0102DCUR; Package: VSSOP-8
pins: 1 B2 (io), 2 GND (power), 3 VCCA (power), 4 A2 (io), 5 A1 (io), 6 OE (in), 7 VCCB (power), 8 B1 (io)
text: 2 RTX

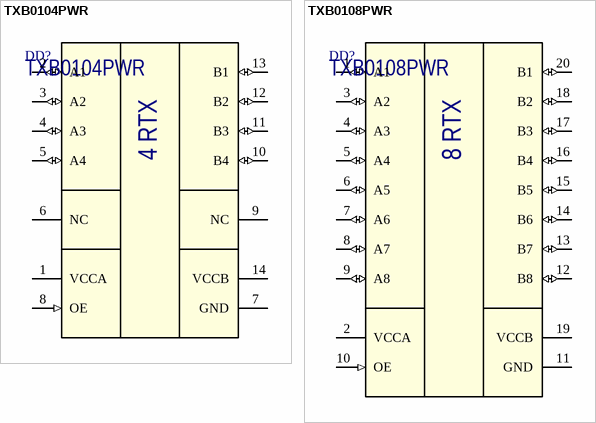
[diagram p34: symbols TXB0104PWR to TXB0108PWR]

## TXB0104PWR
designator DD?
4-Bit Bidirectional Voltage-Level Translator; Part Number: TXB0104PWR; Package: TSSOP-14
pins: 1 VCCA (power), 2 A1 (io), 3 A2 (io), 4 A3 (io), 5 A4 (io), 6 NC, 7 GND (power), 8 OE (in), 9 NC, 10 B4 (io), 11 B3 (io), 12 B2 (io), 13 B1 (io), 14 VCCB (power)
text: 4 RTX

## TXB0108PWR
designator DD?
8-Bit Bidirectional Voltage-Level Translator; Part Number: TXB0108PWR; Package: TSSOP-20
pins: 1 A1 (io), 2 VCCA (power), 3 A2 (io), 4 A3 (io), 5 A4 (io), 6 A5 (io), 7 A6 (io), 8 A7 (io), 9 A8 (io), 10 OE (in), 11 GND (power), 12 B8 (io), 13 B7 (io), 14 B6 (io), 15 B5 (io), 16 B4 (io), 17 B3 (io), 18 B2 (io), 19 VCCB (power), 20 B1 (io)
text: 8 RTX


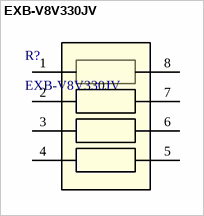
[diagram p35: symbol EXB-V8V330JV]

## EXB-V8V330JV
designator R?
Resistros Array 33 Ohm; Manufacturer: Panasonic; Part Number: EXB-V8V330JV
pins: 1, 2, 3, 4, 5, 6, 7, 8


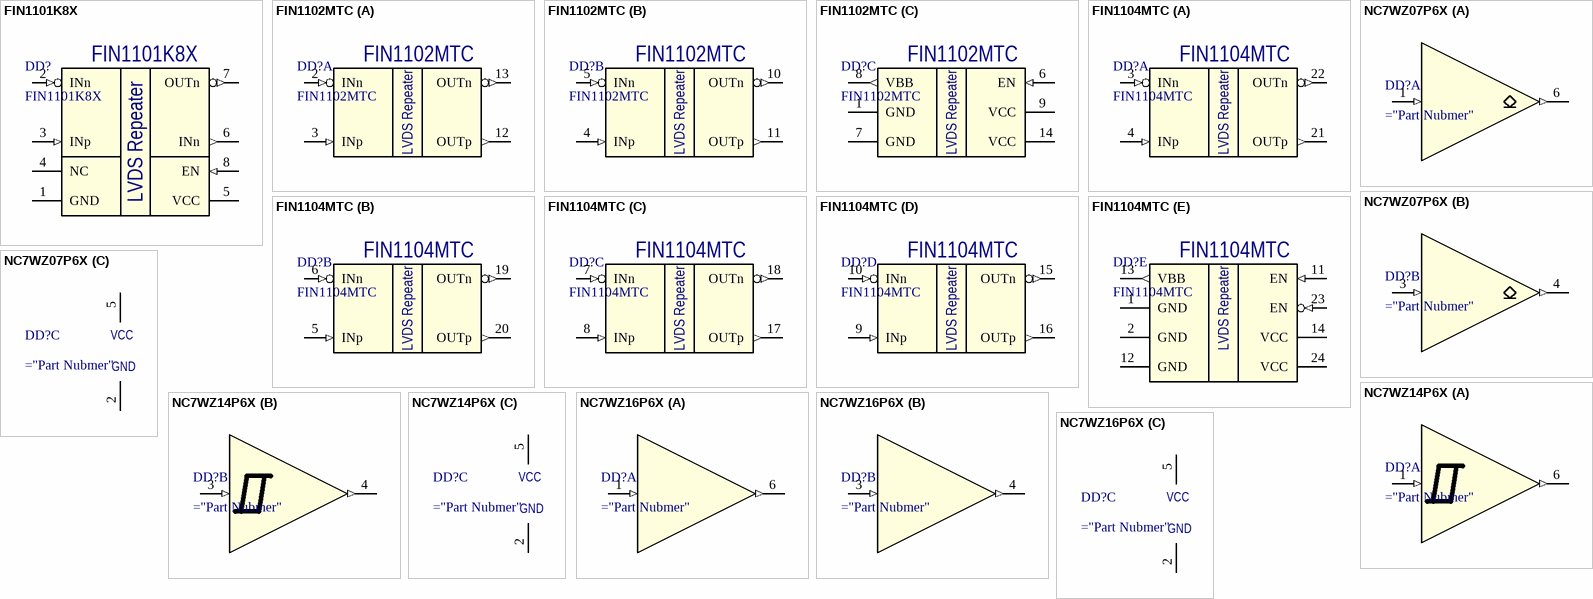
[diagram p36: symbols FIN1101K8X to NC7WZ16P6X]

## FIN1101K8X
designator DD?
High speed 1xLVDS repeater; Part Nubmer: FIN1101K8X
pins: 1 GND (power), 2 INn (in), 3 INp (in), 4 NC, 5 VCC (power), 6 INn (out), 7 OUTn (out), 8 EN (in)
text: LVDS Repeater

## FIN1102MTC
designator DD?
High speed 2xLVDS repeater; Package: TSSOP14; Part Nubmer: FIN1102MTC
part A pins: 2 INn (in), 3 INp (in), 12 OUTp (out), 13 OUTn (out)
part B pins: 4 INp (in), 5 INn (in), 10 OUTn (out), 11 OUTp (out)
part C pins: 1 GND (power), 6 EN (in), 7 GND (power), 8 VBB (out), 9 VCC (power), 14 VCC (power)
part A text: LVDS Repeater
part B text: LVDS Repeater
part C text: LVDS Repeater

## FIN1104MTC
designator DD?
High speed 4xLVDS repeater; Package: TSSOP24; Part Nubmer: FIN1104MTC
part A pins: 3 INn (in), 4 INp (in), 21 OUTp (out), 22 OUTn (out)
part B pins: 5 INp (in), 6 INn (in), 19 OUTn (out), 20 OUTp (out)
part C pins: 7 INn (in), 8 INp (in), 17 OUTp (out), 18 OUTn (out)
part D pins: 9 INp (in), 10 INn (in), 15 OUTn (out), 16 OUTp (out)
part E pins: 1 GND (power), 2 GND (power), 11 EN (in), 12 GND (power), 13 VBB (out), 14 VCC (power), 23 EN (in), 24 VCC (power)
part A text: LVDS Repeater
part B text: LVDS Repeater
part C text: LVDS Repeater
part D text: LVDS Repeater
part E text: LVDS Repeater

## NC7WZ07P6X
designator DD?
Dual buffer with open-drain output; Part Number: NC7WZ07P6X; Package: SC70-6
part A pins: 1 IN (in), 6 OUT (out)
part B pins: 3 IN (in), 4 OUT (out)
part C pins: 2 GND (power), 5 VCC (power)

## NC7WZ14P6X
designator DD?
Dual buffer with schmitt trigger input; Part Number: NC7WZ14P6X; Package: SC70-6
part A pins: 1 IN (in), 6 OUT (out)
part B pins: 3 IN (in), 4 OUT (out)
part C pins: 2 GND (power), 5 VCC (power)

## NC7WZ16P6X
designator DD?
Dual buffer; Part Number: NC7WZ16P6X; Package: SC70-6
part A pins: 1 IN (in), 6 OUT (out)
part B pins: 3 IN (in), 4 OUT (out)
part C pins: 2 GND (power), 5 VCC (power)


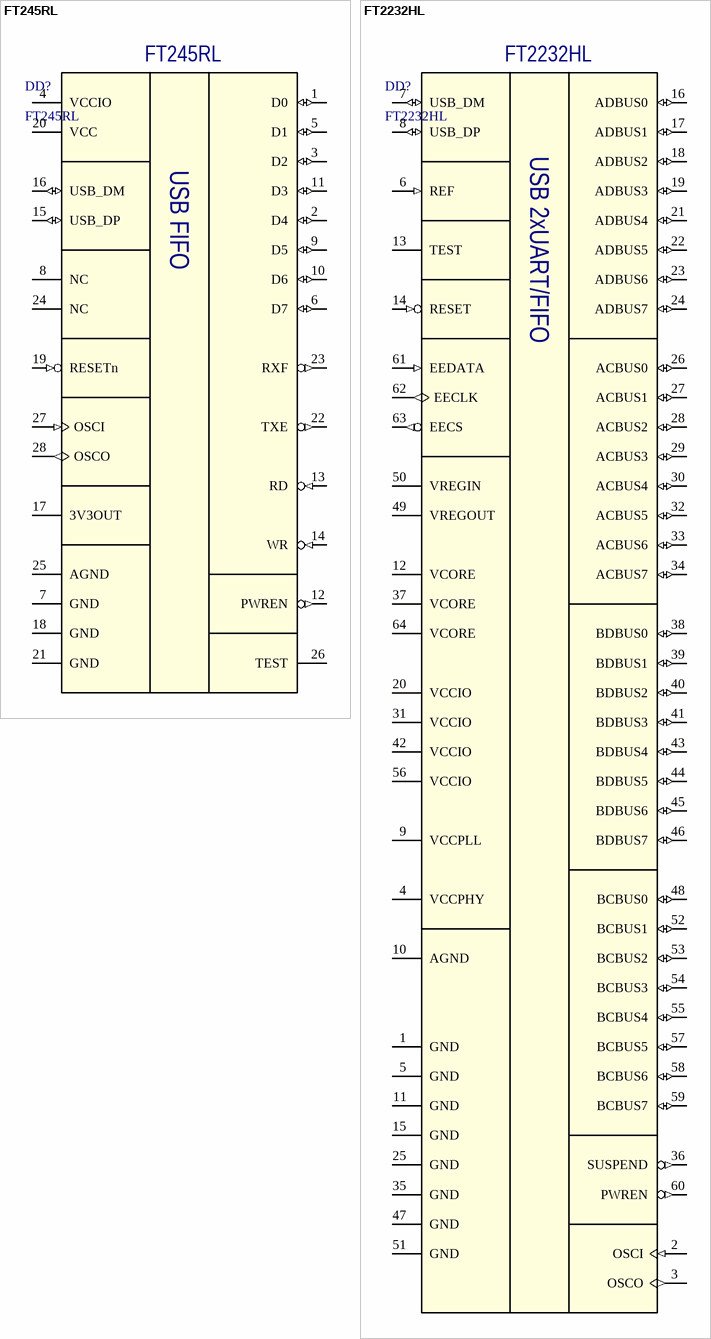
[diagram p37: symbols FT245RL to FT2232HL]

## FT245RL
designator DD?
USB to parallel FIFO interface; Package: SSOP28; Part Nubmer: FT245RL
pins: 1 D0 (io), 2 D4 (io), 3 D2 (io), 4 VCCIO (power), 5 D1 (io), 6 D7 (io), 7 GND (power), 8 NC, 9 D5 (io), 10 D6 (io), 11 D3 (io), 12 PWREN (out), 13 RD (in), 14 WR (in), 15 USB_DP (io), 16 USB_DM (io), 17 3V3OUT (power), 18 GND (power), 19 RESETn (in), 20 VCC (power), 21 GND (power), 22 TXE (out), 23 RXF (out), 24 NC, 25 AGND (power), 26 TEST, 27 OSCI (in), 28 OSCO (out)
text: USB FIFO

## FT2232HL
designator DD?
Dual High Speed USB to Multipurpose UART/FIFO IC; Package: LQFP-64; Part Nubmer: FT2232HL
pins: 1 GND (power), 2 OSCI (in), 3 OSCO (out), 4 VCCPHY (power), 5 GND (power), 6 REF (in), 7 USB_DM (io), 8 USB_DP (io), 9 VCCPLL (power), 10 AGND (power), 11 GND (power), 12 VCORE (power), 13 TEST, 14 RESET (in), 15 GND (power), 16 ADBUS0 (io), 17 ADBUS1 (io), 18 ADBUS2 (io), 19 ADBUS3 (io), 20 VCCIO (power), 21 ADBUS4 (io), 22 ADBUS5 (io), 23 ADBUS6 (io), 24 ADBUS7 (io), 25 GND (power), 26 ACBUS0 (io), 27 ACBUS1 (io), 28 ACBUS2 (io), 29 ACBUS3 (io), 30 ACBUS4 (io), 31 VCCIO (power), 32 ACBUS5 (io), 33 ACBUS6 (io), 34 ACBUS7 (io), 35 GND (power), 36 SUSPEND (out), 37 VCORE (power), 38 BDBUS0 (io), 39 BDBUS1 (io), 40 BDBUS2 (io), 41 BDBUS3 (io), 42 VCCIO (power), 43 BDBUS4 (io), 44 BDBUS5 (io), 45 BDBUS6 (io), 46 BDBUS7 (io), 47 GND (power), 48 BCBUS0 (io), 49 VREGOUT (power), 50 VREGIN (power), 51 GND (power), 52 BCBUS1 (io), 53 BCBUS2 (io), 54 BCBUS3 (io), 55 BCBUS4 (io), 56 VCCIO (power), 57 BCBUS5 (io), 58 BCBUS6 (io), 59 BCBUS7 (io), 60 PWREN (out), 61 EEDATA (in), 62 EECLK (out), 63 EECS (out), 64 VCORE (power)
text: USB 2xUART/FIFO


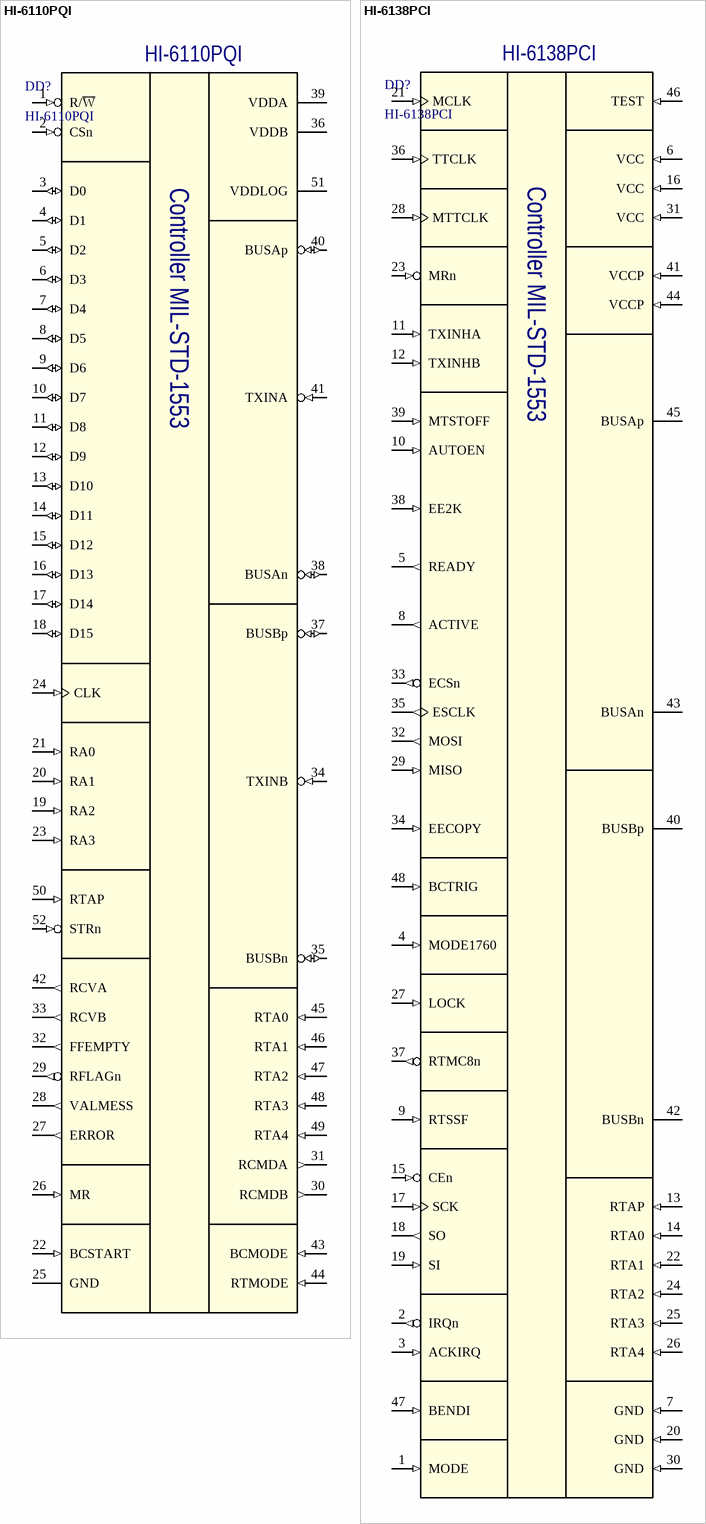
[diagram p38: symbols HI-6110PQI to HI-6138PCI]

## HI-6110PQI
designator DD?
Controller MIL-STD-1553; Package: PQFP52; Part Nubmer: HI-6110PQI
pins: 1 R/~{W} (in), 2 CSn (in), 3 D0 (io), 4 D1 (io), 5 D2 (io), 6 D3 (io), 7 D4 (io), 8 D5 (io), 9 D6 (io), 10 D7 (io), 11 D8 (io), 12 D9 (io), 13 D10 (io), 14 D11 (io), 15 D12 (io), 16 D13 (io), 17 D14 (io), 18 D15 (io), 19 RA2 (in), 20 RA1 (in), 21 RA0 (in), 22 BCSTART (in), 23 RA3 (in), 24 CLK (in), 25 GND (power), 26 MR (in), 27 ERROR (out), 28 VALMESS (out), 29 RFLAGn (out), 30 RCMDB (out), 31 RCMDA (out), 32 FFEMPTY (out), 33 RCVB (out), 34 TXINB (in), 35 BUSBn (io), 36 VDDB (power), 37 BUSBp (io), 38 BUSAn (io), 39 VDDA (power), 40 BUSAp (io), 41 TXINA (in), 42 RCVA (out), 43 BCMODE (in), 44 RTMODE (in), 45 RTA0 (in), 46 RTA1 (in), 47 RTA2 (in), 48 RTA3 (in), 49 RTA4 (in), 50 RTAP (in), 51 VDDLOG (power), 52 STRn (in)

## HI-6138PCI
designator DD?
Controller MIL-STD-1553; Package: PQFP52; Part Nubmer: HI-6138PCI
pins: 1 MODE (in) "Input, 50kΩ pull-up", 2 IRQn (out), 3 ACKIRQ (in) "Input, 50kΩ pull-down", 4 MODE1760 (in) "Input, 50kΩ pull-down", 5 READY (out), 6 VCC (in) "Power Supply 3.3V", 7 GND (in), 8 ACTIVE (out), 9 RTSSF (in) "Input, 50kΩ pull-down", 10 AUTOEN (in) "Input, 50kΩ pull-down", 11 TXINHA (in) "Input, 50kΩ pull-up", 12 TXINHB (in) "Input, 50kΩ pull-up", 13 RTAP (in) "Input, 50kΩ pull-up", 14 RTA0 (in) "Input, 50kΩ pull-up", 15 CEn (in) "Input, 50kΩ pull-up", 16 VCC (in) "Power Supply 3.3V", 17 SCK (in) "Input, 50kΩ pull-down", 18 SO (out), 19 SI (in) "Input, 50kΩ pull-down", 20 GND (in), 21 MCLK (in) "Input, 50kΩ pull-down", 22 RTA1 (in) "Input, 50kΩ pull-up", 23 MRn (in) "Input, 50kΩ pull-up", 24 RTA2 (in) "Input, 50kΩ pull-up", 25 RTA3 (in) "Input, 50kΩ pull-up", 26 RTA4 (in) "Input, 50kΩ pull-up", 27 LOCK (in) "Input, 50kΩ pull-down", 28 MTTCLK (in) "Input, 50kΩ pull-down", 29 MISO (in) "Input, 50kΩ pull-down", 30 GND (in), 31 VCC (in) "Power Supply 3.3V", 32 MOSI (out), 33 ECSn (out), 34 EECOPY (in) "Input, 50kΩ pull-down", 35 ESCLK (out), 36 TTCLK (in) "Input, 50kΩ pull-down", 37 RTMC8n (out), 38 EE2K (in) "Input, 50kΩ pull-down", 39 MTSTOFF (in) "Input, 50kΩ pull-down", 40 BUSBp, 41 VCCP (in) "Power Supply 3.3V", 42 BUSBn, 43 BUSAn, 44 VCCP (in) "Power Supply 3.3V", 45 BUSAp, 46 TEST (in) "Input, 50kΩ pull-down", 47 BENDI (in) "Input, 50kΩ pull-down", 48 BCTRIG (in) "Input, 50kΩ pull-down"


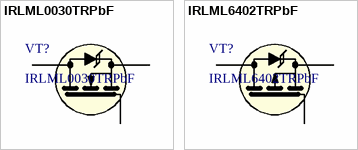
[diagram p39: symbols IRLML0030TRPbF to IRLML6402TRPbF]

## IRLML0030TRPbF
designator VT?
N-Channel MOSFET, 30V, 5.3A; Part Number: IRLML0030TRPbF; Package: SOT23-3
pins: 1 G, 2 S, 3 D

## IRLML6402TRPbF
designator VT?
P-Channel MOSFET, 20V, 3.7A; Part Number: IRLML6402TRPbF; Package: SOT23-3
pins: 1 G, 2 S, 3 D


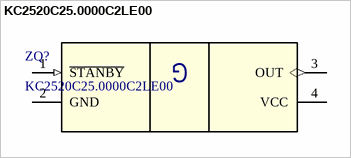
[diagram p40: symbol KC2520C25.0000C2LE00]

## KC2520C25.0000C2LE00
designator ZQ?
25 MHz clock oscillator ±15ppm; Manufacturer: AVX Corp/Kyocera Corp; Part Number: KC2520C25.0000C2LE00; Package: SMD2520
pins: 1 ~{STANBY} (in), 2 GND (power), 3 OUT (out), 4 VCC (power)
text: G


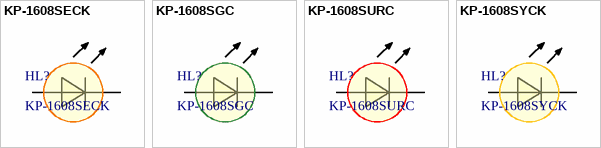
[diagram p41: symbols KP-1608SECK to KP-1608SYCK]

## KP-1608SECK
designator HL?
Super bright orange led (package case 0603); Designator: HL*; Package: 0603; Part Number: KP-1608SECK; Color: Super bright orange
pins: 2, 3

## KP-1608SGC
designator HL?
Super bright green led (package case 0603); Designator: HL*; Package: 0603; Part Number: KP-1608SGC; Color: Super bright green
pins: 2, 3

## KP-1608SURC
designator HL?
Hyper red led (package case 0603); Designator: HL*; Package: 0603; Part Number: KP-1608SURC; Color: Hyper red
pins: 2, 3

## KP-1608SYCK
designator HL?
Super bright yellow led (package case 0603); Designator: HL*; Package: 0603; Part Number: KP-1608SYCK; Color: Super bright yellow
pins: 2, 3


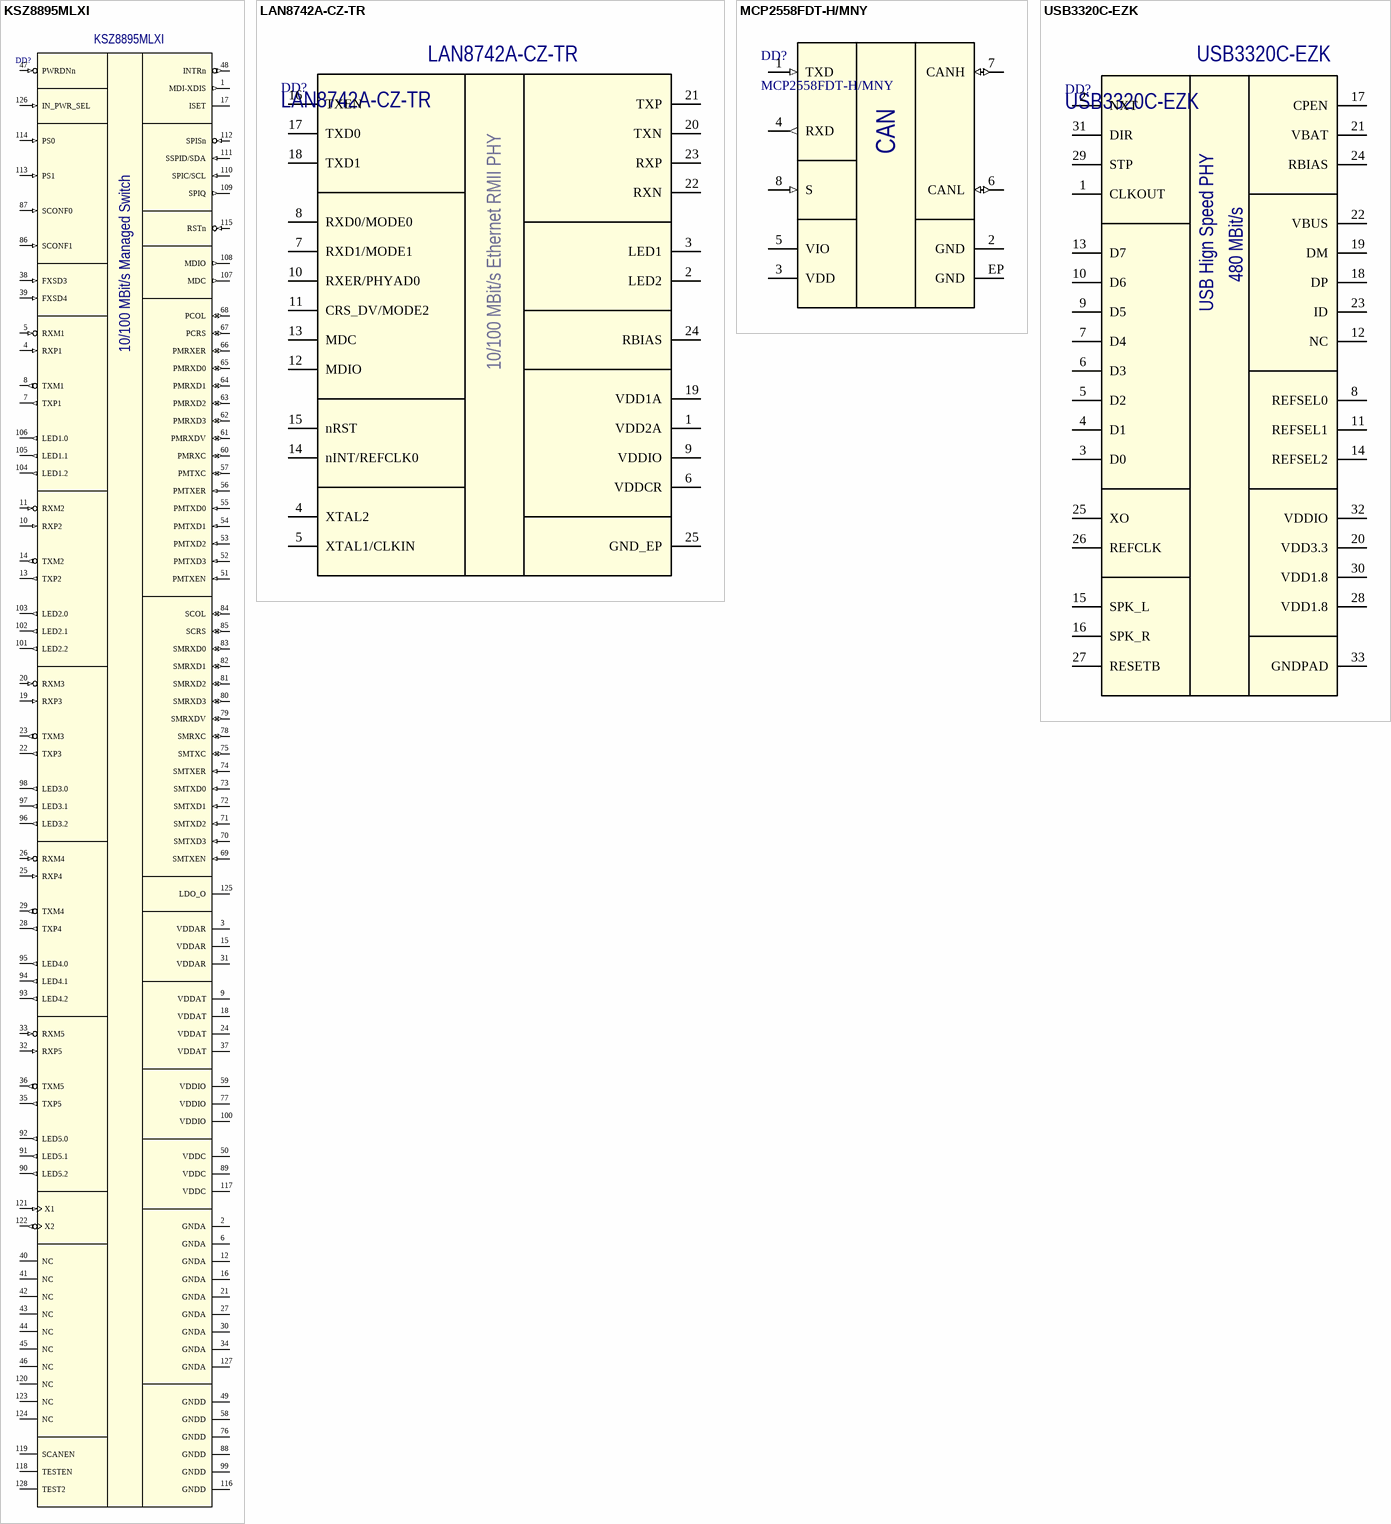
[diagram p42: symbols KSZ8895MLXI to USB3320C-EZK]

## KSZ8895MLXI
designator DD?
Ethernet 5-port switch; Package: LQFP128; Part Number: KSZ8895MLXI
pins: 1 MDI-XDIS (out), 2 GNDA (power), 3 VDDAR (power), 4 RXP1 (in), 5 RXM1 (in), 6 GNDA (power), 7 TXP1 (out), 8 TXM1 (out), 9 VDDAT (power), 10 RXP2 (in), 11 RXM2 (in), 12 GNDA (power), 13 TXP2 (out), 14 TXM2 (out), 15 VDDAR (power), 16 GNDA (power), 17 ISET, 18 VDDAT (power), 19 RXP3 (in), 20 RXM3 (in), 21 GNDA (power), 22 TXP3 (out), 23 TXM3 (out), 24 VDDAT (power), 25 RXP4 (in), 26 RXM4 (in), 27 GNDA (power), 28 TXP4 (out), 29 TXM4 (out), 30 GNDA (power), 31 VDDAR (power), 32 RXP5 (in), 33 RXM5 (in), 34 GNDA (power), 35 TXP5 (out), 36 TXM5 (out), 37 VDDAT (power), 38 FXSD3 (in), 39 FXSD4 (in), 40 NC, 41 NC, 42 NC, 43 NC, 44 NC, 45 NC, 46 NC, 47 PWRDNn (in), 48 INTRn (out), 49 GNDD (power), 50 VDDC (power), 51 PMTXEN (in), 52 PMTXD3 (in), 53 PMTXD2 (in), 54 PMTXD1 (in), 55 PMTXD0 (in), 56 PMTXER (in), 57 PMTXC (io), 58 GNDD (power), 59 VDDIO (power), 60 PMRXC (io), 61 PMRXDV (io), 62 PMRXD3 (io), 63 PMRXD2 (io), 64 PMRXD1 (io), 65 PMRXD0 (io), 66 PMRXER (io), 67 PCRS (io), 68 PCOL (io), 69 SMTXEN (in), 70 SMTXD3 (in), 71 SMTXD2 (in), 72 SMTXD1 (in), 73 SMTXD0 (in), 74 SMTXER (in), 75 SMTXC (io), 76 GNDD (power), 77 VDDIO (power), 78 SMRXC (io), 79 SMRXDV (io), 80 SMRXD3 (io), 81 SMRXD2 (io), 82 SMRXD1 (io), 83 SMRXD0 (io), 84 SCOL (io), 85 SCRS (io), 86 SCONF1 (in), 87 SCONF0 (in), 88 GNDD (power), 89 VDDC (power), 90 LED5.2 (out), 91 LED5.1 (out), 92 LED5.0 (out), 93 LED4.2 (out), 94 LED4.1 (out), 95 LED4.0 (out), 96 LED3.2 (out), 97 LED3.1 (out), 98 LED3.0 (out), 99 GNDD (power), 100 VDDIO (power), 101 LED2.2 (out), 102 LED2.1 (out), 103 LED2.0 (out), 104 LED1.2 (out), 105 LED1.1 (out), 106 LED1.0 (out), 107 MDC (out), 108 MDIO (out), 109 SPIQ (out), 110 SPIC/SCL (in), 111 SSPID/SDA (in), 112 SPISn (in), 113 PS1 (in), 114 PS0 (in), 115 RSTn (in), 116 GNDD (power), 117 VDDC (power), 118 TESTEN, 119 SCANEN, 120 NC, 121 X1 (in), 122 X2 (out), 123 NC, 124 NC, 125 LDO_O (power), 126 IN_PWR_SEL (in), 127 GNDA (power), 128 TEST2
text: 10/100 MBit/s Managed Switch

## LAN8742A-CZ-TR
designator DD?
10/100 MBit/s Ethernet RMII PHY; Package: SQFN-24; Part Number: LAN8742A-CZ-TR
pins: 1 VDD2A, 2 LED2, 3 LED1, 4 XTAL2, 5 XTAL1/CLKIN, 6 VDDCR, 7 RXD1/MODE1, 8 RXD0/MODE0, 9 VDDIO, 10 RXER/PHYAD0, 11 CRS_DV/MODE2, 12 MDIO, 13 MDC, 14 nINT/REFCLK0, 15 nRST, 16 TXEN, 17 TXD0, 18 TXD1, 19 VDD1A, 20 TXN, 21 TXP, 22 RXN, 23 RXP, 24 RBIAS, 25 GND_EP

## MCP2558FDT-H/MNY
designator DD?
CAN FD Transceiver with Silent Mode; Package: TDFN-8 (2 mm x 3 mm); PartNumber: MCP2558FDT-H/MNY
pins: 1 TXD (in), 2 GND (power), 3 VDD (power), 4 RXD (out), 5 VIO (power), 6 CANL (io), 7 CANH (io), 8 S (in), EP GND (power)
text: CAN

## USB3320C-EZK
designator DD?
USB High speed PHY 480 MBit/s; Package: QFN32; Part Number: USB3320C-EZK
pins: 1 CLKOUT, 2 NXT, 3 D0, 4 D1, 5 D2, 6 D3, 7 D4, 8 REFSEL0, 9 D5, 10 D6, 11 REFSEL1, 12 NC, 13 D7, 14 REFSEL2, 15 SPK_L, 16 SPK_R, 17 CPEN, 18 DP, 19 DM, 20 VDD3.3, 21 VBAT, 22 VBUS, 23 ID, 24 RBIAS, 25 XO, 26 REFCLK, 27 RESETB, 28 VDD1.8, 29 STP, 30 VDD1.8, 31 DIR, 32 VDDIO, 33 GNDPAD
text: 480 MBit/s; USB Hign Speed PHY


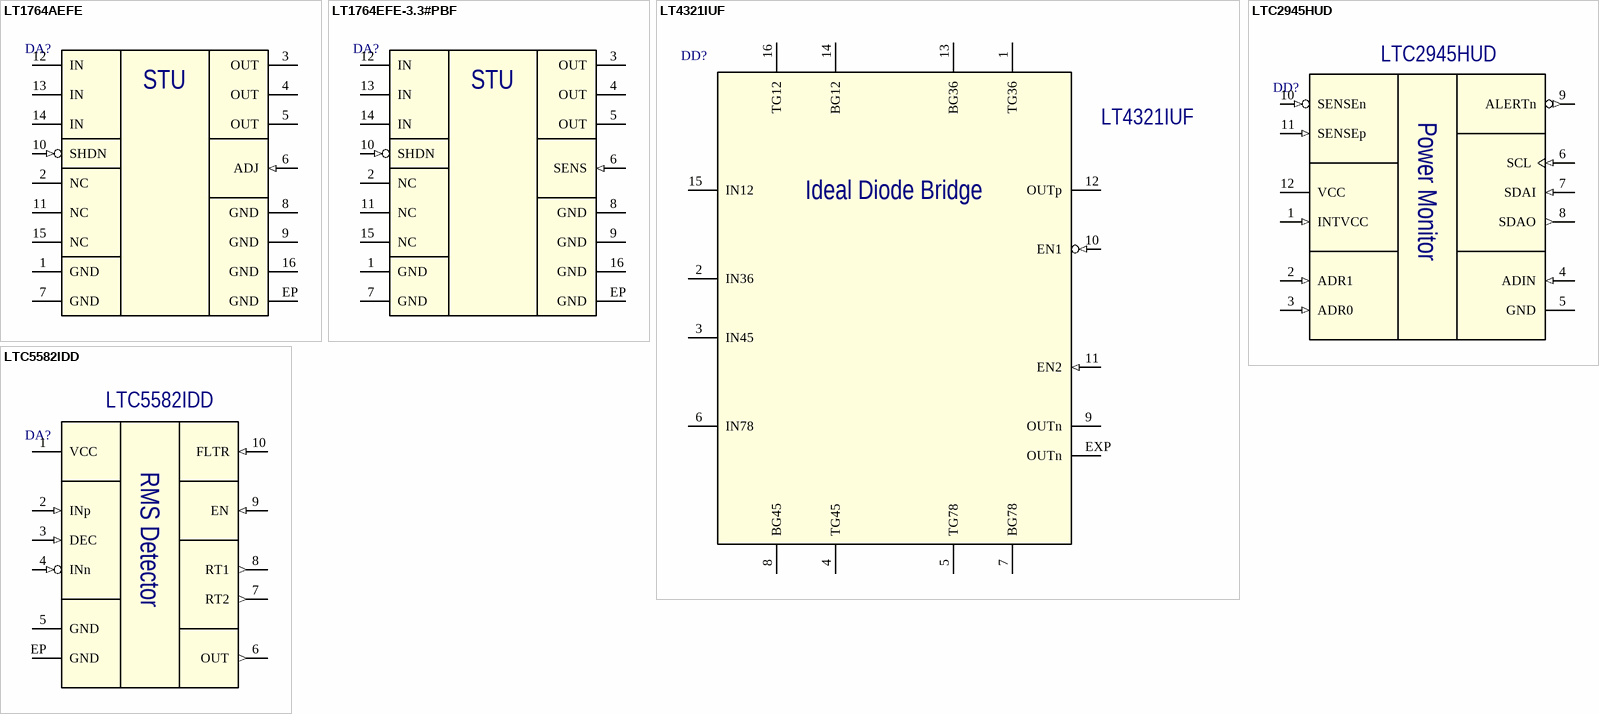
[diagram p43: symbols LT1764AEFE to LTC5582IDD]

## LT1764AEFE
designator DA?  (value not drawn)
Adjustable LDO Regulator; Name: *; Part Number: LT1764AEFE; Package: TSSOP16-EP
pins: 1 GND (power), 2 NC (hiz), 3 OUT (power), 4 OUT (power), 5 OUT (power), 6 ADJ (in), 7 GND (power), 8 GND (power), 9 GND (power), 10 SHDN (in), 11 NC (hiz), 12 IN (power), 13 IN (power), 14 IN (power), 15 NC (hiz), 16 GND (power), EP GND (power)
text: STU

## LT1764EFE-3.3#PBF
designator DA?  (value not drawn)
Fixed LDO Regulator 3.3V/3A; Name: *; Part Number: LT1764EFE-3.3#PBF; Package: TSSOP16-EP
pins: 1 GND (power), 2 NC (hiz), 3 OUT (power), 4 OUT (power), 5 OUT (power), 6 SENS (in), 7 GND (power), 8 GND (power), 9 GND (power), 10 SHDN (in), 11 NC (hiz), 12 IN (power), 13 IN (power), 14 IN (power), 15 NC (hiz), 16 GND (power), EP GND (power)
text: STU

## LT4321IUF
designator DD?
PoE Ideal Diode Bridge Controller; Package: QFN-16 (4 x 4 mm); Part Number: LT4321IUF
pins: 1 TG36 (power), 2 IN36 (power), 3 IN45 (power), 4 TG45 (power), 5 TG78 (power), 6 IN78 (power), 7 BG78 (power), 8 BG45 (power), 9 OUTn (power), 10 EN1 (in), 11 EN2 (in), 12 OUTp (power), 13 BG36 (power), 14 BG12 (power), 15 IN12 (power), 16 TG12 (power), EXP OUTn (power)
text: Ideal Diode Bridge

## LTC2945HUD
designator DD?
Power Monitor; Package: QFN12; Part Number: LTC2945HUD
pins: 1 INTVCC (in), 2 ADR1 (in), 3 ADR0 (in), 4 ADIN (in), 5 GND (power), 6 SCL (in), 7 SDAI (in), 8 SDAO (out), 9 ALERTn (out), 10 SENSEn (in), 11 SENSEp (in), 12 VCC (power)

## LTC5582IDD
designator DA?
RMS Power Detector; Package: DFN10; Part Number: LTC5582IDD
pins: 1 VCC (power), 2 INp (in), 3 DEC (in), 4 INn (in), 5 GND (power), 6 OUT (out), 7 RT2 (out), 8 RT1 (out), 9 EN (in), 10 FLTR (in), EP GND (power)
text: RMS Detector


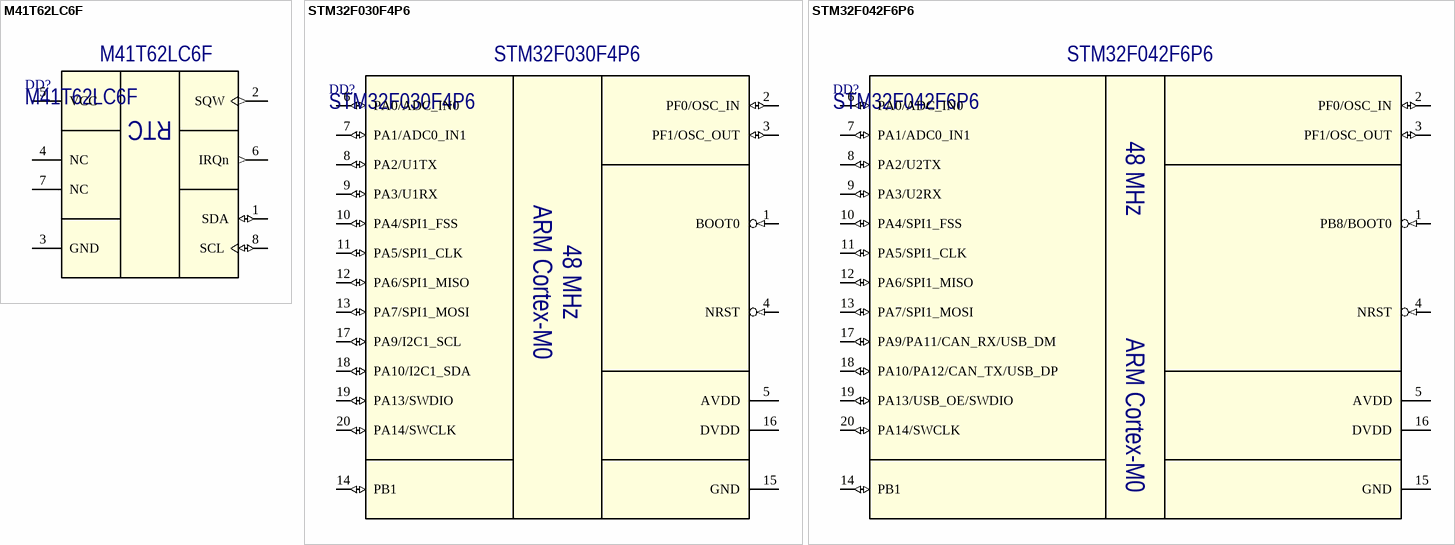
[diagram p44: symbols M41T62LC6F to STM32F042F6P6]

## M41T62LC6F
designator DD?
Real Time Clock; Package: LCC8; Part Number: M41T62LC6F
pins: 1 SDA (io), 2 SQW (out), 3 GND (power), 4 NC, 5 VCC (power), 6 IRQn (out), 7 NC, 8 SCL (io)
text: RTC

## STM32F030F4P6
designator DD?
ARM Cortex-M0 MCU 48MHz with 16KB flash; Package: TSSOP-20; Part Number: STM32F030F4P6
pins: 1 BOOT0 (in), 2 PF0/OSC_IN (io), 3 PF1/OSC_OUT (io), 4 NRST (in), 5 AVDD (power), 6 PA0/ADC_IN0 (io), 7 PA1/ADC0_IN1 (io), 8 PA2/U1TX (io), 9 PA3/U1RX (io), 10 PA4/SPI1_FSS (io), 11 PA5/SPI1_CLK (io), 12 PA6/SPI1_MISO (io), 13 PA7/SPI1_MOSI (io), 14 PB1 (io), 15 GND (power), 16 DVDD (power), 17 PA9/I2C1_SCL (io), 18 PA10/I2C1_SDA (io), 19 PA13/SWDIO (io), 20 PA14/SWCLK (io)
text: ARM Cortex-M0; 48 MHz

## STM32F042F6P6
designator DD?
ARM Cortex-M0 MCU 48MHz with 32KB flash; Package: TSSOP-20; Part Number: STM32F042F6P6
pins: 1 PB8/BOOT0 (in), 2 PF0/OSC_IN (io), 3 PF1/OSC_OUT (io), 4 NRST (in), 5 AVDD (power), 6 PA0/ADC_IN0 (io), 7 PA1/ADC0_IN1 (io), 8 PA2/U2TX (io), 9 PA3/U2RX (io), 10 PA4/SPI1_FSS (io), 11 PA5/SPI1_CLK (io), 12 PA6/SPI1_MISO (io), 13 PA7/SPI1_MOSI (io), 14 PB1 (io), 15 GND (power), 16 DVDD (power), 17 PA9/PA11/CAN_RX/USB_DM (io), 18 PA10/PA12/CAN_TX/USB_DP (io), 19 PA13/USB_OE/SWDIO (io), 20 PA14/SWCLK (io)
text: 48 MHz; ARM Cortex-M0

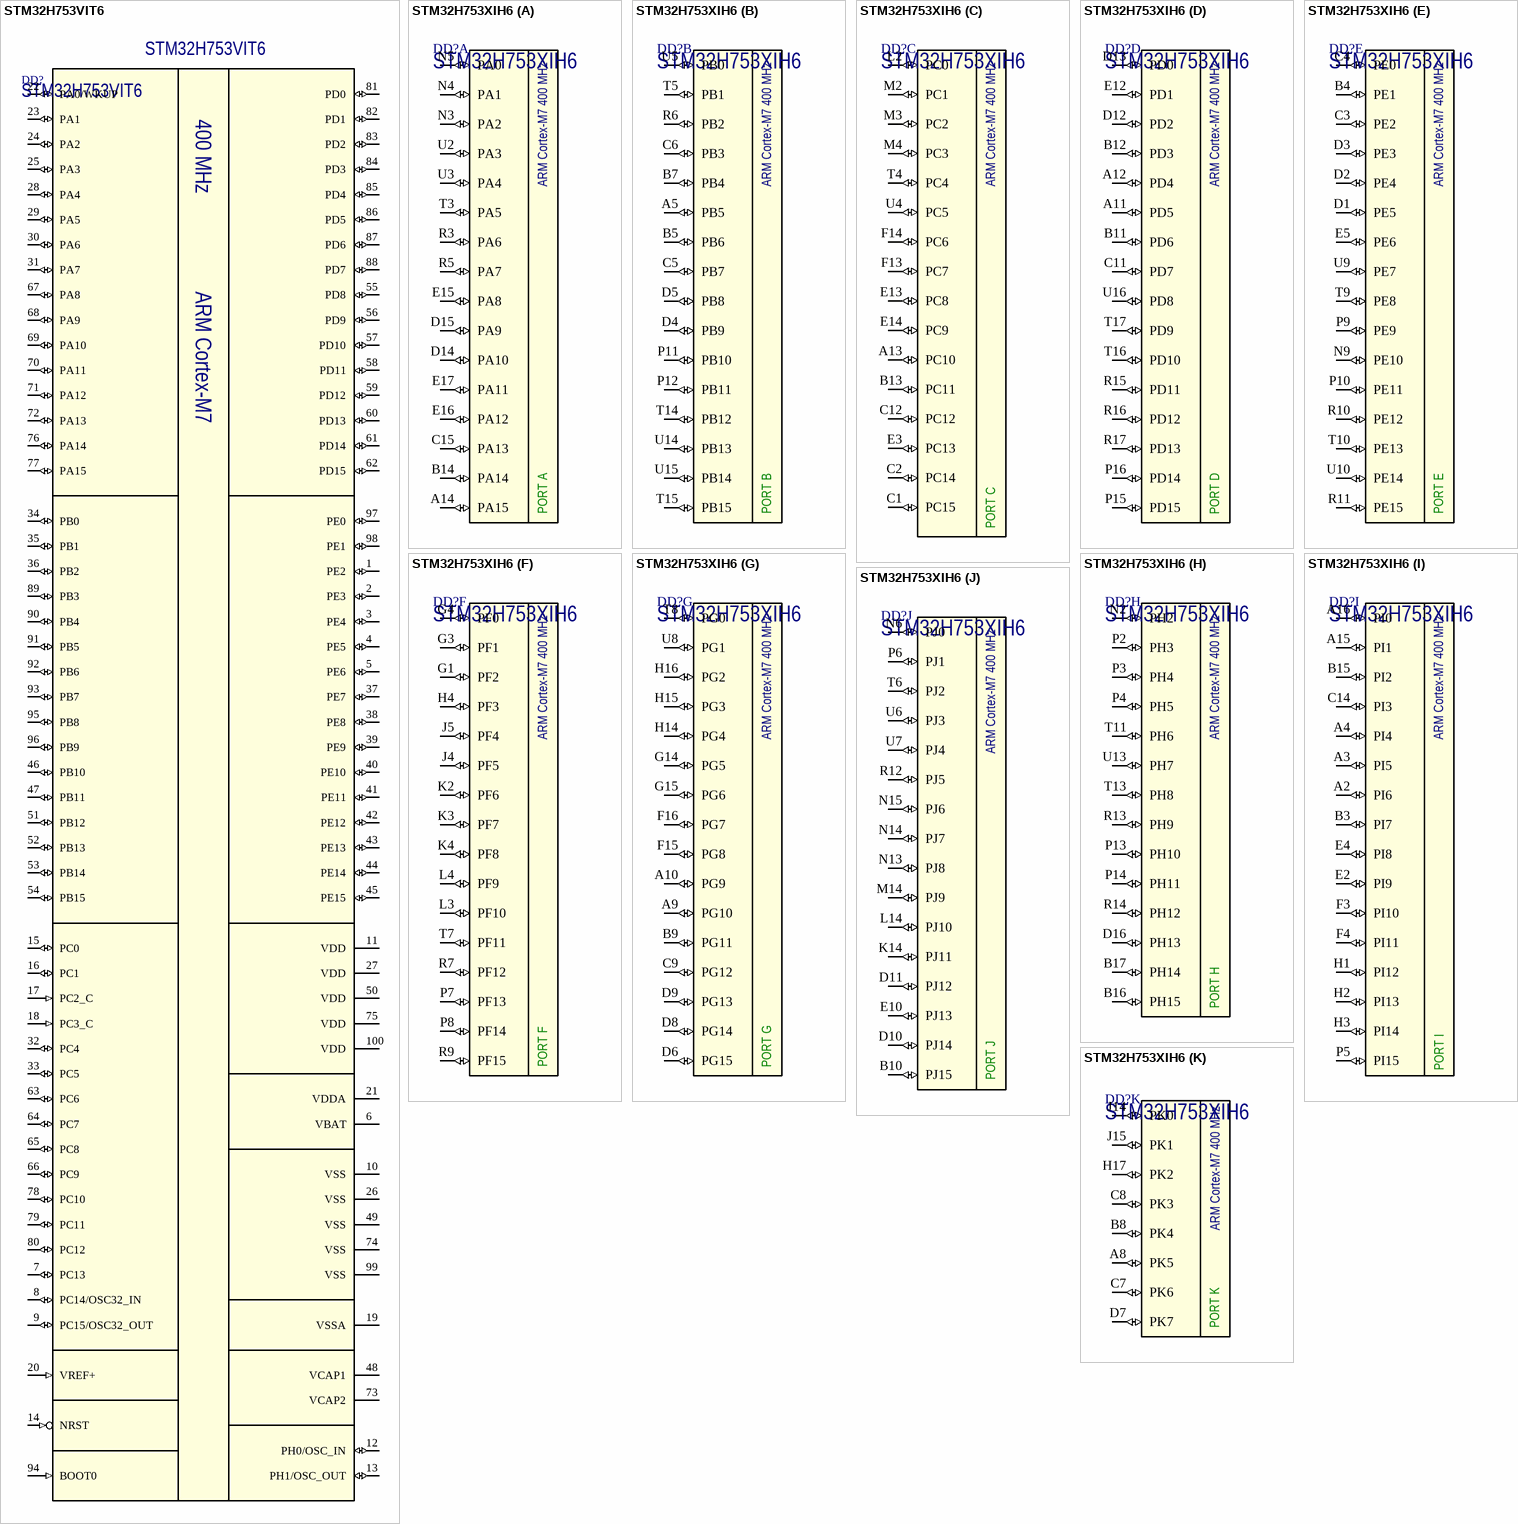
[diagram p45: symbols STM32H753VIT6 to STM32H753XIH6]

## STM32H753VIT6
designator DD?
ARM Cortex-M7 MCU 400MHz with 2MB flash; I/O count: 82; Package: LQFP-100; Part Number: STM32H753VIT6
pins: 1 PE2 (io), 2 PE3 (io), 3 PE4 (io), 4 PE5 (io), 5 PE6 (io), 6 VBAT (power), 7 PC13 (io), 8 PC14/OSC32_IN (io), 9 PC15/OSC32_OUT (io), 10 VSS (power), 11 VDD (power), 12 PH0/OSC_IN (io), 13 PH1/OSC_OUT (io), 14 NRST (in), 15 PC0 (io), 16 PC1 (io), 17 PC2_C (in), 18 PC3_C (in), 19 VSSA (power), 20 VREF+ (in), 21 VDDA (power), 22 PA0/WKUP (io), 23 PA1 (io), 24 PA2 (io), 25 PA3 (io), 26 VSS (power), 27 VDD (power), 28 PA4 (io), 29 PA5 (io), 30 PA6 (io), 31 PA7 (io), 32 PC4 (io), 33 PC5 (io), 34 PB0 (io), 35 PB1 (io), 36 PB2 (io), 37 PE7 (io), 38 PE8 (io), 39 PE9 (io), 40 PE10 (io), 41 PE11 (io), 42 PE12 (io), 43 PE13 (io), 44 PE14 (io), 45 PE15 (io), 46 PB10 (io), 47 PB11 (io), 48 VCAP1, 49 VSS (power), 50 VDD (power), 51 PB12 (io), 52 PB13 (io), 53 PB14 (io), 54 PB15 (io), 55 PD8 (io), 56 PD9 (io), 57 PD10 (io), 58 PD11 (io), 59 PD12 (io), 60 PD13 (io), 61 PD14 (io), 62 PD15 (io), 63 PC6 (io), 64 PC7 (io), 65 PC8 (io), 66 PC9 (io), 67 PA8 (io), 68 PA9 (io), 69 PA10 (io), 70 PA11 (io), 71 PA12 (io), 72 PA13 (io), 73 VCAP2, 74 VSS (power), 75 VDD (power), 76 PA14 (io), 77 PA15 (io), 78 PC10 (io), 79 PC11 (io), 80 PC12 (io), 81 PD0 (io), 82 PD1 (io), 83 PD2 (io), 84 PD3 (io), 85 PD4 (io), 86 PD5 (io), 87 PD6 (io), 88 PD7 (io), 89 PB3 (io), 90 PB4 (io), 91 PB5 (io), 92 PB6 (io), 93 PB7 (io), 94 BOOT0 (in), 95 PB8 (io), 96 PB9 (io), 97 PE0 (io), 98 PE1 (io), 99 VSS (power), 100 VDD (power)
text: 400 MHz; ARM Cortex-M7

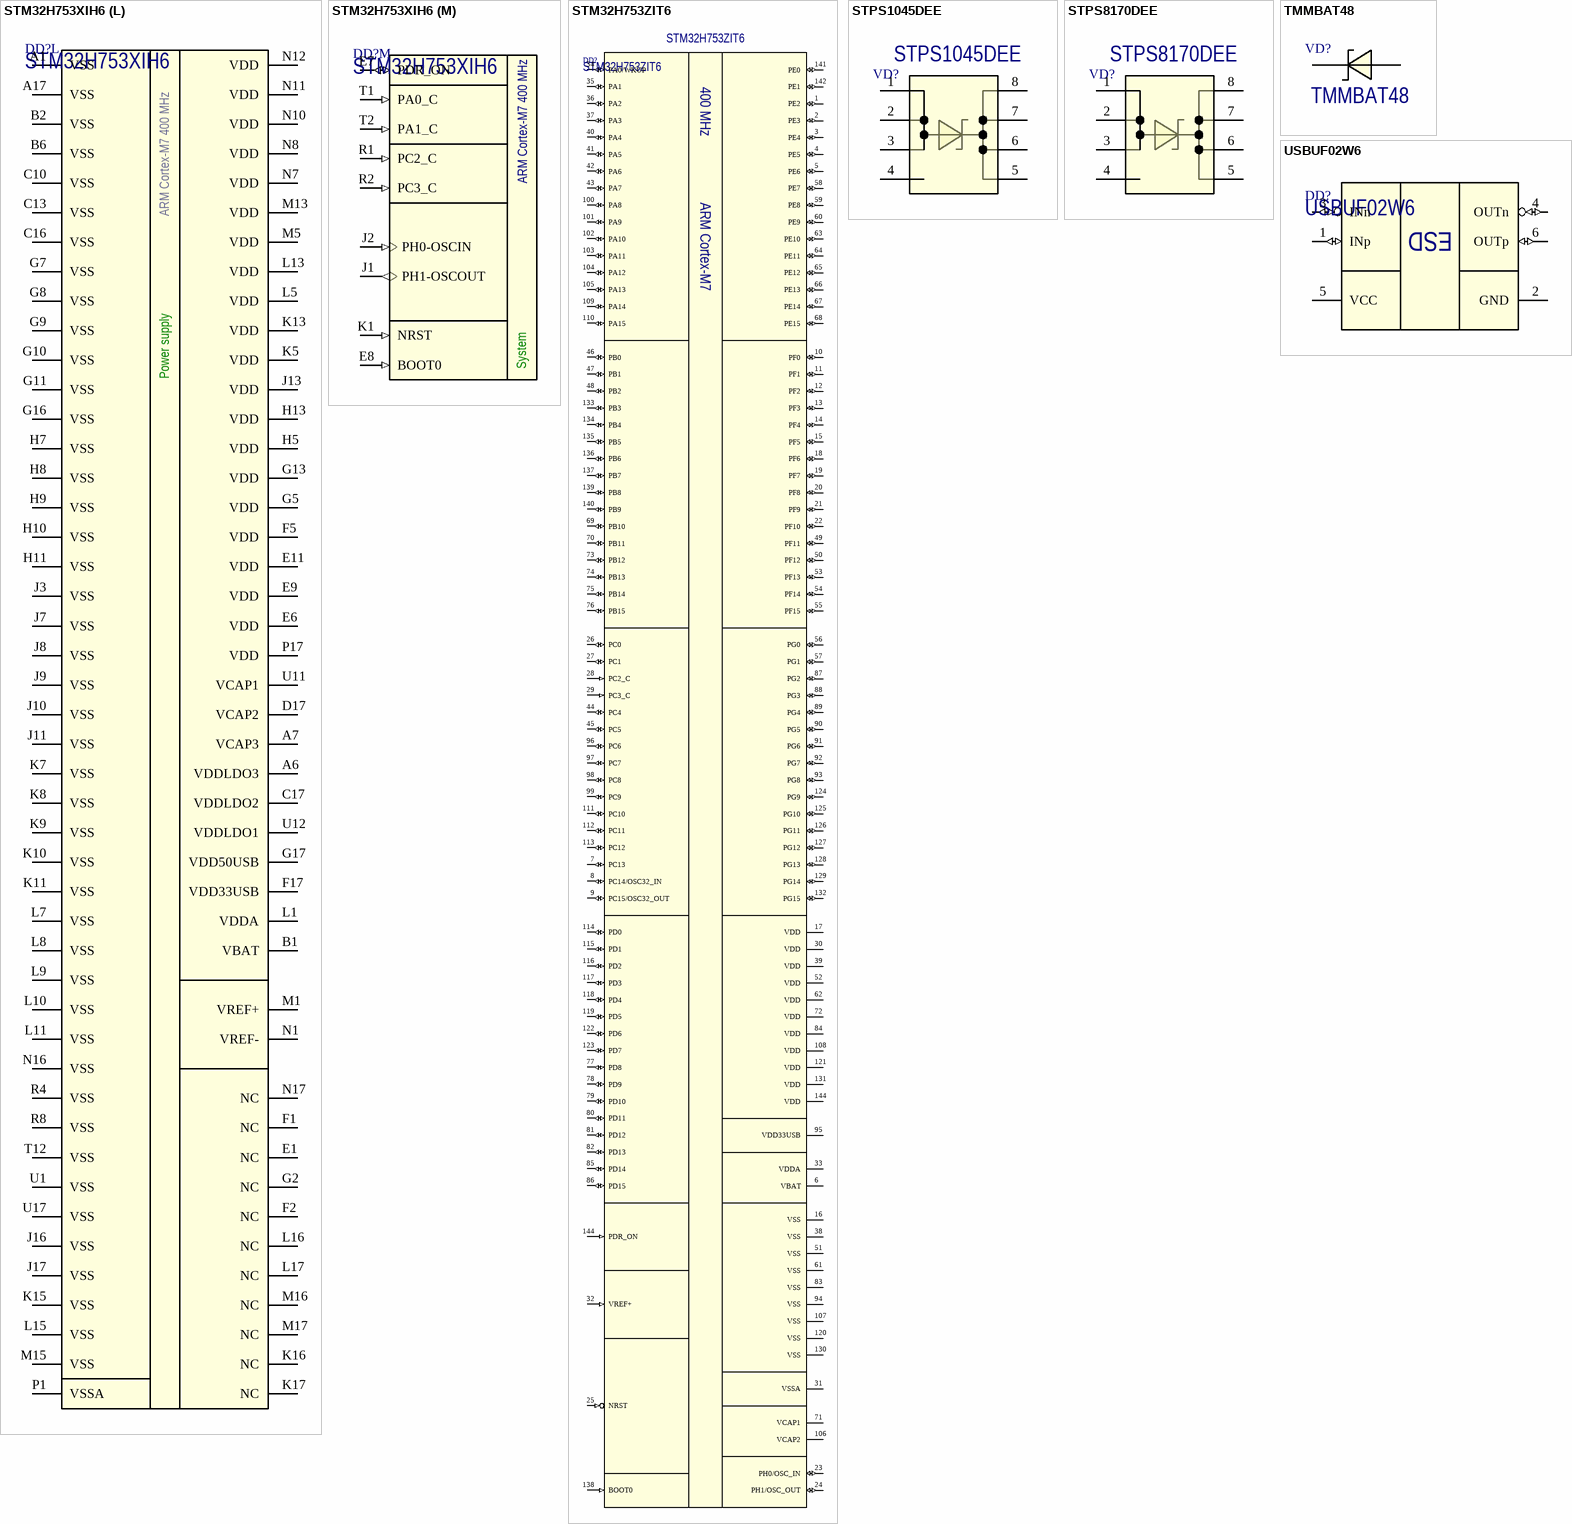
[diagram p46: symbols STM32H753XIH6 to USBUF02W6]

## STM32H753XIH6
designator DD?
ARM Cortex-M7 MCU 400MHz with 2MB flash, 1MB RAM; Package: TFBGA240+25; Part Number: STM32H753XIH6
part A pins: A14 PA15 (io), B14 PA14 (io), C15 PA13 (io), D14 PA10 (io), D15 PA9 (io), E15 PA8 (io), E16 PA12 (io), E17 PA11 (io), N3 PA2 (io), N4 PA1 (io), N5 PA0 (io), R3 PA6 (io), R5 PA7 (io), T3 PA5 (io), U2 PA3 (io), U3 PA4 (io)
part B pins: A5 PB5 (io), B5 PB6 (io), B7 PB4 (io), C5 PB7 (io), C6 PB3 (io), D4 PB9 (io), D5 PB8 (io), P11 PB10 (io), P12 PB11 (io), R6 PB2 (io), T5 PB1 (io), T14 PB12 (io), T15 PB15 (io), U5 PB0 (io), U14 PB13 (io), U15 PB14 (io)
part C pins: A13 PC10 (io), B13 PC11 (io), C1 PC15 (io), C2 PC14 (io), C12 PC12 (io), E3 PC13 (io), E13 PC8 (io), E14 PC9 (io), F13 PC7 (io), F14 PC6 (io), L2 PC0 (io), M2 PC1 (io), M3 PC2 (io), M4 PC3 (io), T4 PC4 (io), U4 PC5 (io)
part D pins: A11 PD5 (io), A12 PD4 (io), B11 PD6 (io), B12 PD3 (io), C11 PD7 (io), D12 PD2 (io), D13 PD0 (io), E12 PD1 (io), P15 PD15 (io), P16 PD14 (io), R15 PD11 (io), R16 PD12 (io), R17 PD13 (io), T16 PD10 (io), T17 PD9 (io), U16 PD8 (io)
part E pins: B4 PE1 (io), C3 PE2 (io), C4 PE0 (io), D1 PE5 (io), D2 PE4 (io), D3 PE3 (io), E5 PE6 (io), N9 PE10 (io), P9 PE9 (io), P10 PE11 (io), R10 PE12 (io), R11 PE15 (io), T9 PE8 (io), T10 PE13 (io), U9 PE7 (io), U10 PE14 (io)
part F pins: G1 PF2 (io), G3 PF1 (io), G4 PF0 (io), H4 PF3 (io), J4 PF5 (io), J5 PF4 (io), K2 PF6 (io), K3 PF7 (io), K4 PF8 (io), L3 PF10 (io), L4 PF9 (io), P7 PF13 (io), P8 PF14 (io), R7 PF12 (io), R9 PF15 (io), T7 PF11 (io)
part G pins: A9 PG10 (io), A10 PG9 (io), B9 PG11 (io), C9 PG12 (io), D6 PG15 (io), D8 PG14 (io), D9 PG13 (io), F15 PG8 (io), F16 PG7 (io), G14 PG5 (io), G15 PG6 (io), H14 PG4 (io), H15 PG3 (io), H16 PG2 (io), T8 PG0 (io), U8 PG1 (io)
part H pins: B16 PH15 (io), B17 PH14 (io), D16 PH13 (io), N2 PH2 (io), P2 PH3 (io), P3 PH4 (io), P4 PH5 (io), P13 PH10 (io), P14 PH11 (io), R13 PH9 (io), R14 PH12 (io), T11 PH6 (io), T13 PH8 (io), U13 PH7 (io)
part I pins: A2 PI6 (io), A3 PI5 (io), A4 PI4 (io), A15 PI1 (io), A16 PI0 (io), B3 PI7 (io), B15 PI2 (io), C14 PI3 (io), E2 PI9 (io), E4 PI8 (io), F3 PI10 (io), F4 PI11 (io), H1 PI12 (io), H2 PI13 (io), H3 PI14 (io), P5 PI15 (io)
part J pins: B10 PJ15 (io), D10 PJ14 (io), D11 PJ12 (io), E10 PJ13 (io), K14 PJ11 (io), L14 PJ10 (io), M14 PJ9 (io), N6 PJ0 (io), N13 PJ8 (io), N14 PJ7 (io), N15 PJ6 (io), P6 PJ1 (io), R12 PJ5 (io), T6 PJ2 (io), U6 PJ3 (io), U7 PJ4 (io)
part K pins: A8 PK5 (io), B8 PK4 (io), C7 PK6 (io), C8 PK3 (io), D7 PK7 (io), H17 PK2 (io), J14 PK0 (io), J15 PK1 (io)
part L pins: A1 VSS (power), A6 VDDLDO3 (power), A7 VCAP3 (power), A17 VSS (power), B1 VBAT (power), B2 VSS (power), B6 VSS (power), C10 VSS (power), C13 VSS (power), C16 VSS (power), C17 VDDLDO2 (power), D17 VCAP2 (power), E1 NC, E6 VDD (power), E9 VDD (power), E11 VDD (power), F1 NC, F2 NC, F5 VDD (power), F17 VDD33USB (power), G2 NC, G5 VDD (power), G7 VSS (power), G8 VSS (power), G9 VSS (power), G10 VSS (power), G11 VSS (power), G13 VDD (power), G16 VSS (power), G17 VDD50USB (power), H5 VDD (power), H7 VSS (power), H8 VSS (power), H9 VSS (power), H10 VSS (power), H11 VSS (power), H13 VDD (power), J3 VSS (power), J7 VSS (power), J8 VSS (power), J9 VSS (power), J10 VSS (power), J11 VSS (power), J13 VDD (power), J16 VSS (power), J17 VSS (power), K5 VDD (power), K7 VSS (power), K8 VSS (power), K9 VSS (power), K10 VSS (power), K11 VSS (power), K13 VDD (power), K15 VSS (power), K16 NC, K17 NC, L1 VDDA (power), L5 VDD (power), L7 VSS (power), L8 VSS (power), L9 VSS (power), L10 VSS (power), L11 VSS (power), L13 VDD (power), L15 VSS (power), L16 NC, L17 NC, M1 VREF+ (power), M5 VDD (power), M13 VDD (power), M15 VSS (power), M16 NC, M17 NC, N1 VREF- (power), N7 VDD (power), N8 VDD (power), N10 VDD (power), N11 VDD (power), N12 VDD (power), N16 VSS (power), N17 NC, P1 VSSA (power), P17 VDD (power), R4 VSS (power), R8 VSS (power), T12 VSS (power), U1 VSS (power), U11 VCAP1 (power), U12 VDDLDO1 (power), U17 VSS (power)
part M pins: E7 PDR_ON (io), E8 BOOT0 (in), J1 PH1-OSCOUT (out), J2 PH0-OSCIN (in), K1 NRST (in), R1 PC2_C (in), R2 PC3_C (in), T1 PA0_C (in), T2 PA1_C (in)
part A text: ARM Cortex-M7 400 MHz; PORT A
part B text: ARM Cortex-M7 400 MHz; PORT B
part C text: ARM Cortex-M7 400 MHz; PORT C
part D text: ARM Cortex-M7 400 MHz; PORT D
part E text: ARM Cortex-M7 400 MHz; PORT E
part F text: ARM Cortex-M7 400 MHz; PORT F
part G text: ARM Cortex-M7 400 MHz; PORT G
part H text: ARM Cortex-M7 400 MHz; PORT H
part I text: ARM Cortex-M7 400 MHz; PORT I
part J text: ARM Cortex-M7 400 MHz; PORT J
part K text: ARM Cortex-M7 400 MHz; PORT K
part L text: ARM Cortex-M7 400 MHz; Power supply
part M text: ARM Cortex-M7 400 MHz; System

## STM32H753ZIT6
designator DD?
ARM Cortex-M7 MCU 400MHz with 2MB flash; I/O count: 114; Package: LQFP-144; Part Number: STM32H753ZIT6
pins: 1 PE2 (io), 2 PE3 (io), 3 PE4 (io), 4 PE5 (io), 5 PE6 (io), 6 VBAT (power), 7 PC13 (io), 8 PC14/OSC32_IN (io), 9 PC15/OSC32_OUT (io), 10 PF0 (io), 11 PF1 (io), 12 PF2 (io), 13 PF3 (io), 14 PF4 (io), 15 PF5 (io), 16 VSS (power), 17 VDD (power), 18 PF6 (io), 19 PF7 (io), 20 PF8 (io), 21 PF9 (io), 22 PF10 (io), 23 PH0/OSC_IN (io), 24 PH1/OSC_OUT (io), 25 NRST (in), 26 PC0 (io), 27 PC1 (io), 28 PC2_C (in), 29 PC3_C (in), 30 VDD (power), 31 VSSA (power), 32 VREF+ (in), 33 VDDA (power), 34 PA0/WKUP (io), 35 PA1 (io), 36 PA2 (io), 37 PA3 (io), 38 VSS (power), 39 VDD (power), 40 PA4 (io), 41 PA5 (io), 42 PA6 (io), 43 PA7 (io), 44 PC4 (io), 45 PC5 (io), 46 PB0 (io), 47 PB1 (io), 48 PB2 (io), 49 PF11 (io), 50 PF12 (io), 51 VSS (power), 52 VDD (power), 53 PF13 (io), 54 PF14 (io), 55 PF15 (io), 56 PG0 (io), 57 PG1 (io), 58 PE7 (io), 59 PE8 (io), 60 PE9 (io), 61 VSS (power), 62 VDD (power), 63 PE10 (io), 64 PE11 (io), 65 PE12 (io), 66 PE13 (io), 67 PE14 (io), 68 PE15 (io), 69 PB10 (io), 70 PB11 (io), 71 VCAP1, 72 VDD (power), 73 PB12 (io), 74 PB13 (io), 75 PB14 (io), 76 PB15 (io), 77 PD8 (io), 78 PD9 (io), 79 PD10 (io), 80 PD11 (io), 81 PD12 (io), 82 PD13 (io), 83 VSS (power), 84 VDD (power), 85 PD14 (io), 86 PD15 (io), 87 PG2 (io), 88 PG3 (io), 89 PG4 (io), 90 PG5 (io), 91 PG6 (io), 92 PG7 (io), 93 PG8 (io), 94 VSS (power), 95 VDD33USB (power), 96 PC6 (io), 97 PC7 (io), 98 PC8 (io), 99 PC9 (io), 100 PA8 (io), 101 PA9 (io), 102 PA10 (io), 103 PA11 (io), 104 PA12 (io), 105 PA13 (io), 106 VCAP2, 107 VSS (power), 108 VDD (power), 109 PA14 (io), 110 PA15 (io), 111 PC10 (io), 112 PC11 (io), 113 PC12 (io), 114 PD0 (io), 115 PD1 (io), 116 PD2 (io), 117 PD3 (io), 118 PD4 (io), 119 PD5 (io), 120 VSS (power), 121 VDD (power), 122 PD6 (io), 123 PD7 (io), 124 PG9 (io), 125 PG10 (io), 126 PG11 (io), 127 PG12 (io), 128 PG13 (io), 129 PG14 (io), 130 VSS (power), 131 VDD (power), 132 PG15 (io), 133 PB3 (io), 134 PB4 (io), 135 PB5 (io), 136 PB6 (io), 137 PB7 (io), 138 BOOT0 (in), 139 PB8 (io), 140 PB9 (io), 141 PE0 (io), 142 PE1 (io), 144 VDD (power), 144 PDR_ON (in)
text: 400 MHz; ARM Cortex-M7

## STPS1045DEE
designator VD?
Schottky diodes 10A, 45V; Package: PowerFLAT (3.3x3.3mm); Part Number: STPS1045DEE
pins: 1, 2, 3, 4, 5, 6, 7, 8

## STPS8170DEE
designator VD?
Schottky diodes 8A, 170V; Package: PowerFLAT (3.3x3.3mm); Part Number: STPS8170DEE
pins: 1, 2, 3, 4, 5, 6, 7, 8

## TMMBAT48
designator VD?
Small signal Schottky diodes; Package: SOD80C; Part Number: TMMBAT48
pins: 1, 2

## USBUF02W6
designator DD?
USB ESD Protection; Part Number: USBUF02W6; Package: SC70-6
pins: 1 INp (io), 2 GND (power), 3 INn (io), 4 OUTn (io), 5 VCC (power), 6 OUTp (io)
text: ESD


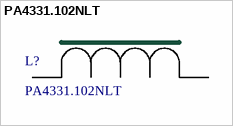
[diagram p47: symbol PA4331.102NLT]

## PA4331.102NLT
designator L?
Fixed Inductors with Iron Core 1µH, 2,7A 54 mOhm; Part Number: PA4331.102NLT; Package: Nonstandard (3.20mm x 3.20mm x 1.20mm)
pins: 1, 2


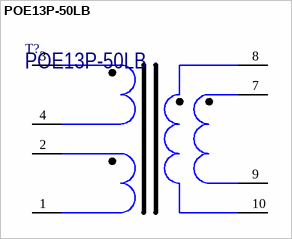
[diagram p48: symbol POE13P-50LB]

## POE13P-50LB
designator T?
Flyback transformers for PoE applications (input of 36–72 V); Manufacturer: Coilcraft; Part Number: POE13P-50LB; Package: Non-standart (13.46 x 17.75 x 12.7 mm)
pins: 1, 2, 3, 4, 7, 8, 9, 10


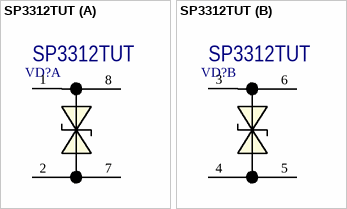
[diagram p49: symbol SP3312TUT]

## SP3312TUT
designator VD?
Ethernet ESD Protection; Package: UDFN-08; Part Number: SP3312TUT
part A pins: 1, 2, 7, 8
part B pins: 3, 4, 5, 6


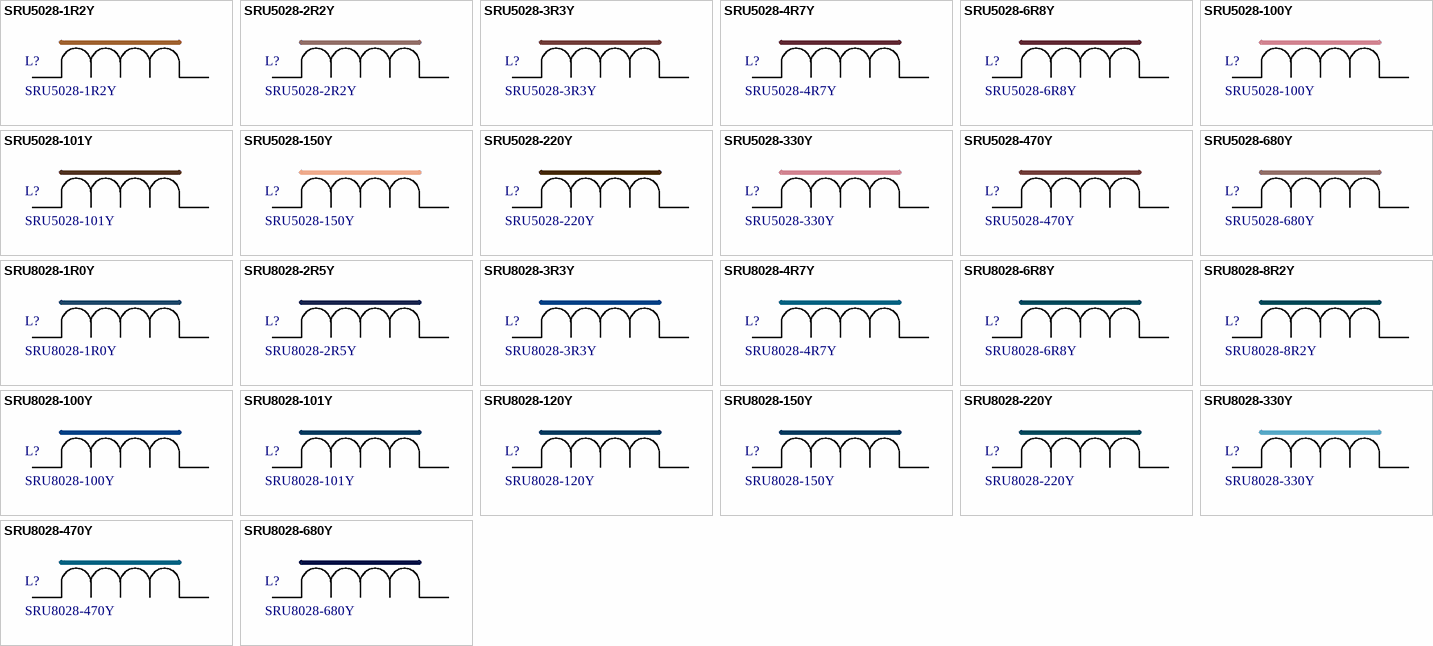
[diagram p50: symbols SRU5028-1R2Y to SRU8028-680Y]

## SRU5028-1R2Y
designator L?
Shielded SMD Power Inductors; RDC: 16.8 mOhm; SRF Min: 200 MHz; Q: 10; Irms  Max: 3.50 A; Isat  Typ: 3.40 A; Inductance @ 100 kHz: 1.2 µH; Part Number: SRU5028-1R2Y; Package: 5.2 x 5.2 mm
pins: 1, 2

## SRU5028-2R2Y
designator L?
Shielded SMD Power Inductors; RDC: 21 mOhm; SRF Min: 130 MHz; Q: 10; Irms  Max: 3.20 A; Isat  Typ: 2.50 A; Inductance @ 100 kHz: 2.2 µH; Part Number: SRU5028-2R2Y; Package: 5.2 x 5.2 mm
pins: 1, 2

## SRU5028-3R3Y
designator L?
Shielded SMD Power Inductors; RDC: 24 mOhm; SRF Min: 90 MHz; Q: 10; Irms  Max: 2.80 A; Isat  Typ: 2.10 A; Inductance @ 100 kHz: 3.3 µH; Part Number: SRU5028-3R3Y; Package: 5.2 x 5.2 mm
pins: 1, 2

## SRU5028-4R7Y
designator L?
Shielded SMD Power Inductors; RDC: 32 mOhm; SRF Min: 50 MHz; Q: 9; Irms  Max: 2.20 A; Isat  Typ: 1.85 A; Inductance @ 100 kHz: 4.7 µH; Part Number: SRU5028-4R7Y; Package: 5.2 x 5.2 mm
pins: 1, 2

## SRU5028-6R8Y
designator L?
Shielded SMD Power Inductors; RDC: 42 mOhm; SRF Min: 55 MHz; Q: 10; Irms  Max: 2.00 A; Isat  Typ: 1.55 A; Inductance @ 100 kHz: 6.8 µH; Part Number: SRU5028-6R8Y; Package: 5.2 x 5.2 mm
pins: 1, 2

## SRU5028-100Y
designator L?
Shielded SMD Power Inductors; RDC: 63 mOhm; SRF Min: 25 MHz; Q: 18; Irms  Max: 1.80 A; Isat  Typ: 1.40 A; Inductance @ 100 kHz: 10 µH; Part Number: SRU5028-100Y; Package: 5.2 x 5.2 mm
pins: 1, 2

## SRU5028-101Y
designator L?
Shielded SMD Power Inductors; RDC: 625 mOhm; SRF Min: 8 MHz; Q: 15; Irms  Max: 0.47 A; Isat  Typ: 0.42 A; Inductance @ 100 kHz: 100 µH; Part Number: SRU5028-101Y; Package: 5.2 x 5.2 mm
pins: 1, 2

## SRU5028-150Y
designator L?
Shielded SMD Power Inductors; RDC: 108 mOhm; SRF Min: 23 MHz; Q: 18; Irms  Max: 1.10 A; Isat  Typ: 1.00 A; Inductance @ 100 kHz: 15 µH; Part Number: SRU5028-150Y; Package: 5.2 x 5.2 mm
pins: 1, 2

## SRU5028-220Y
designator L?
Shielded SMD Power Inductors; RDC: 162 mOhm; SRF Min: 18 MHz; Q: 15; Irms  Max: 0.95 A; Isat  Typ: 0.85 A; Inductance @ 100 kHz: 22 µH; Part Number: SRU5028-220Y; Package: 5.2 x 5.2 mm
pins: 1, 2

## SRU5028-330Y
designator L?
Shielded SMD Power Inductors; RDC: 203 mOhm; SRF Min: 16 MHz; Q: 15; Irms  Max: 0.80 A; Isat  Typ: 0.68 A; Inductance @ 100 kHz: 33 µH; Part Number: SRU5028-330Y; Package: 5.2 x 5.2 mm
pins: 1, 2

## SRU5028-470Y
designator L?
Shielded SMD Power Inductors; RDC: 285 mOhm; SRF Min: 13 MHz; Q: 13; Irms  Max: 0.70 A; Isat  Typ: 0.62 A; Inductance @ 100 kHz: 47 µH; Part Number: SRU5028-470Y; Package: 5.2 x 5.2 mm
pins: 1, 2

## SRU5028-680Y
designator L?
Shielded SMD Power Inductors; RDC: 450 mOhm; SRF Min: 10 MHz; Q: 13; Irms  Max: 0.56 A; Isat  Typ: 0.46 A; Inductance @ 100 kHz: 68 µH; Part Number: SRU5028-680Y; Package: 5.2 x 5.2 mm
pins: 1, 2

## SRU8028-1R0Y
designator L?
Shielded SMD Power Inductors; RDC: 10.1 mOhm; SRF Min: 66 MHz; Q: 12; Irms  Max: 7.00 A; Isat  Typ: 5.50 A; Inductance @ 100 kHz: 1 µH; Part Number: SRU8028-1R0Y; Package: 8.0 x 8.0 mm
pins: 1, 2

## SRU8028-2R5Y
designator L?
Shielded SMD Power Inductors; RDC: 13.6 mOhm; SRF Min: 65 MHz; Q: 15; Irms  Max: 4.50 A; Isat  Typ: 4.20 A; Inductance @ 100 kHz: 2.5 µH; Part Number: SRU8028-2R5Y; Package: 8.0 x 8.0 mm
pins: 1, 2

## SRU8028-3R3Y
designator L?
Shielded SMD Power Inductors; RDC: 17.5 mOhm; SRF Min: 60 MHz; Q: 12; Irms  Max: 3.60 A; Isat  Typ: 3.50 A; Inductance @ 100 kHz: 3.3 µH; Part Number: SRU8028-3R3Y; Package: 8.0 x 8.0 mm
pins: 1, 2

## SRU8028-4R7Y
designator L?
Shielded SMD Power Inductors; RDC: 20 mOhm; SRF Min: 50 MHz; Q: 15; Irms  Max: 3.70 A; Isat  Typ: 3.20 A; Inductance @ 100 kHz: 4.7 µH; Part Number: SRU8028-4R7Y; Package: 8.0 x 8.0 mm
pins: 1, 2

## SRU8028-6R8Y
designator L?
Shielded SMD Power Inductors; RDC: 34 mOhm; SRF Min: 40 MHz; Q: 13; Irms  Max: 2.80 A; Isat  Typ: 2.50 A; Inductance @ 100 kHz: 6.8 µH; Part Number: SRU8028-6R8Y; Package: 8.0 x 8.0 mm
pins: 1, 2

## SRU8028-8R2Y
designator L?
Shielded SMD Power Inductors; RDC: 54 mOhm; SRF Min: 37 MHz; Q: 17; Irms  Max: 2.60 A; Isat  Typ: 2.30 A; Inductance @ 100 kHz: 8.2 µH; Part Number: SRU8028-8R2Y; Package: 8.0 x 8.0 mm
pins: 1, 2

## SRU8028-100Y
designator L?
Shielded SMD Power Inductors; RDC: 45 mOhm; SRF Min: 35 MHz; Q: 22; Irms  Max: 2.60 A; Isat  Typ: 2.20 A; Inductance @ 100 kHz: 10 µH; Part Number: SRU8028-100Y; Package: 8.0 x 8.0 mm
pins: 1, 2

## SRU8028-101Y
designator L?
Shielded SMD Power Inductors; RDC: 390 mOhm; SRF Min: 8 MHz; Q: 35; Irms  Max: 0.75 A; Isat  Typ: 0.70 A; Inductance @ 100 kHz: 100 µH; Part Number: SRU8028-101Y; Package: 8.0 x 8.0 mm
pins: 1, 2

## SRU8028-120Y
designator L?
Shielded SMD Power Inductors; RDC: 76 mOhm; SRF Min: 30 MHz; Q: 21; Irms  Max: 2.20 A; Isat  Typ: 2.00 A; Inductance @ 100 kHz: 12 µH; Part Number: SRU8028-120Y; Package: 8.0 x 8.0 mm
pins: 1, 2

## SRU8028-150Y
designator L?
Shielded SMD Power Inductors; RDC: 66 mOhm; SRF Min: 25 MHz; Q: 20; Irms  Max: 2.00 A; Isat  Typ: 1.70 A; Inductance @ 100 kHz: 15 µH; Part Number: SRU8028-150Y; Package: 8.0 x 8.0 mm
pins: 1, 2

## SRU8028-220Y
designator L?
Shielded SMD Power Inductors; RDC: 106 mOhm; SRF Min: 20 MHz; Q: 22; Irms  Max: 1.60 A; Isat  Typ: 1.50 A; Inductance @ 100 kHz: 22 µH; Part Number: SRU8028-220Y; Package: 8.0 x 8.0 mm
pins: 1, 2